# Altium integrated library NXP LPC2000.IntLib: 82 symbols (part 4 of 6)
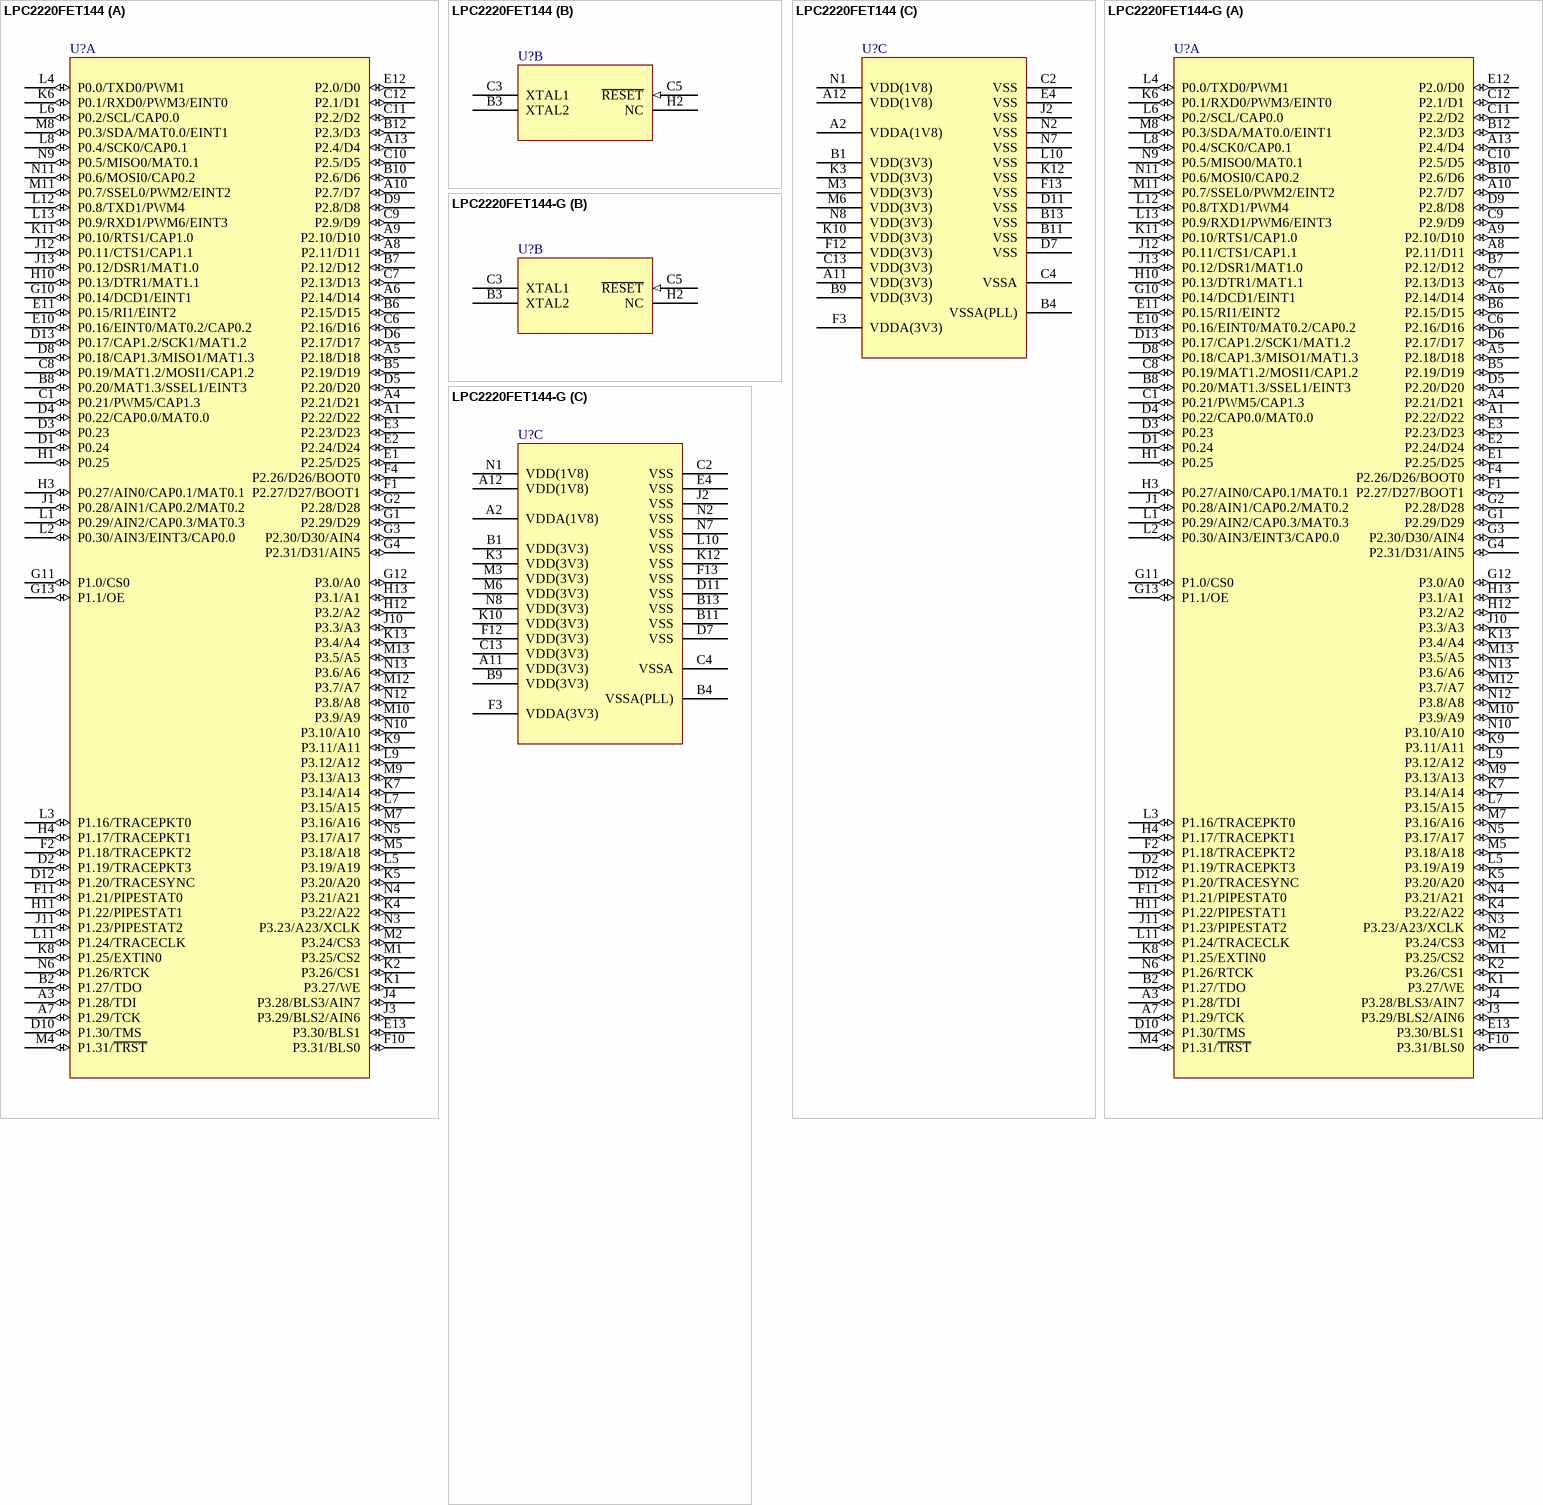
[diagram p32: symbols LPC2220FET144 to LPC2220FET144-G]

## LPC2220FET144
designator U?
ARM7 16/32-Bit Microcontroller, 64KB RAM, 144-Lead TFBGA; Published: 16-Oct-2006; DatasheetVersion: rev.03, Feb-2007; PackageVersion: Sep-2005; PackageReference: SOT569-1; Publisher: Altium Limited; PackageDescription: 144-Ball Plastic Thin Fine Pitch Ball Grid Array 0.8 mm Pitch; Code_JEDEC: MO-216; ComponentLink1Description: Manufacturer Link; ComponentLink1URL: http://www.nxp.com/; ComponentLink2Description: Datasheet; ComponentLink2URL: http://www.standardics.nxp.com/products/lpc2000/datasheet/lpc2210.lpc2220.pdf
footprint SOT569-1 (BGA, 144-Leads, Body 12x12mm, Pitch 0.8mm)
3D model LPC2220-BGA144 (144-Ball Plastic Thin Fine Pitch Ball Grid Array 0.8 mm Pitch)
part A pins: A1 P2.22/D22 (io), A3 P1.28/TDI (io), A4 P2.21/D21 (io), A5 P2.18/D18 (io), A6 P2.14/D14 (io), A7 P1.29/TCK (io), A8 P2.11/D11 (io), A9 P2.10/D10 (io), A10 P2.7/D7 (io), A13 P2.4/D4 (io), B2 P1.27/TDO (io), B5 P2.19/D19 (io), B6 P2.15/D15 (io), B7 P2.12/D12 (io), B8 P0.20/MAT1.3/SSEL1/EINT3 (io), B10 P2.6/D6 (io), B12 P2.3/D3 (io), C1 P0.21/PWM5/CAP1.3 (io), C6 P2.16/D16 (io), C7 P2.13/D13 (io), C8 P0.19/MAT1.2/MOSI1/CAP1.2 (io), C9 P2.9/D9 (io), C10 P2.5/D5 (io), C11 P2.2/D2 (io), C12 P2.1/D1 (io), D1 P0.24 (io), D2 P1.19/TRACEPKT3 (io), D3 P0.23 (io), D4 P0.22/CAP0.0/MAT0.0 (io), D5 P2.20/D20 (io), D6 P2.17/D17 (io), D8 P0.18/CAP1.3/MISO1/MAT1.3 (io), D9 P2.8/D8 (io), D10 P1.30/TMS (io), D12 P1.20/TRACESYNC (io), D13 P0.17/CAP1.2/SCK1/MAT1.2 (io), E1 P2.25/D25 (io), E2 P2.24/D24 (io), E3 P2.23/D23 (io), E10 P0.16/EINT0/MAT0.2/CAP0.2 (io), E11 P0.15/RI1/EINT2 (io), E12 P2.0/D0 (io), E13 P3.30/BLS1 (io), F1 P2.27/D27/BOOT1 (io), F2 P1.18/TRACEPKT2 (io), F4 P2.26/D26/BOOT0 (io), F10 P3.31/BLS0 (io), F11 P1.21/PIPESTAT0 (io), G1 P2.29/D29 (io), G2 P2.28/D28 (io), G3 P2.30/D30/AIN4 (io), G4 P2.31/D31/AIN5 (io), G10 P0.14/DCD1/EINT1 (io), G11 P1.0/CS0 (io), G12 P3.0/A0 (io), G13 P1.1/OE (io), H1 P0.25 (io), H3 P0.27/AIN0/CAP0.1/MAT0.1 (io), H4 P1.17/TRACEPKT1 (io), H10 P0.13/DTR1/MAT1.1 (io), H11 P1.22/PIPESTAT1 (io), H12 P3.2/A2 (io), H13 P3.1/A1 (io), J1 P0.28/AIN1/CAP0.2/MAT0.2 (io), J3 P3.29/BLS2/AIN6 (io), J4 P3.28/BLS3/AIN7 (io), J10 P3.3/A3 (io), J11 P1.23/PIPESTAT2 (io), J12 P0.11/CTS1/CAP1.1 (io), J13 P0.12/DSR1/MAT1.0 (io), K1 P3.27/WE (io), K2 P3.26/CS1 (io), K4 P3.22/A22 (io), K5 P3.20/A20 (io), K6 P0.1/RXD0/PWM3/EINT0 (io), K7 P3.14/A14 (io), K8 P1.25/EXTIN0 (io), K9 P3.11/A11 (io), K11 P0.10/RTS1/CAP1.0 (io), K13 P3.4/A4 (io), L1 P0.29/AIN2/CAP0.3/MAT0.3 (io), L2 P0.30/AIN3/EINT3/CAP0.0 (io), L3 P1.16/TRACEPKT0 (io), L4 P0.0/TXD0/PWM1 (io), L5 P3.19/A19 (io), L6 P0.2/SCL/CAP0.0 (io), L7 P3.15/A15 (io), L8 P0.4/SCK0/CAP0.1 (io), L9 P3.12/A12 (io), L11 P1.24/TRACECLK (io), L12 P0.8/TXD1/PWM4 (io), L13 P0.9/RXD1/PWM6/EINT3 (io), M1 P3.25/CS2 (io), M2 P3.24/CS3 (io), M4 P1.31/~{TRST} (io), M5 P3.18/A18 (io), M7 P3.16/A16 (io), M8 P0.3/SDA/MAT0.0/EINT1 (io), M9 P3.13/A13 (io), M10 P3.9/A9 (io), M11 P0.7/SSEL0/PWM2/EINT2 (io), M12 P3.7/A7 (io), M13 P3.5/A5 (io), N3 P3.23/A23/XCLK (io), N4 P3.21/A21 (io), N5 P3.17/A17 (io), N6 P1.26/RTCK (io), N9 P0.5/MISO0/MAT0.1 (io), N10 P3.10/A10 (io), N11 P0.6/MOSI0/CAP0.2 (io), N12 P3.8/A8 (io), N13 P3.6/A6 (io)
part B pins: B3 XTAL2, C3 XTAL1, C5 ~{RESET} (in), H2 NC
part C pins: A2 VDDA(1V8) (power), A11 VDD(3V3) (power), A12 VDD(1V8) (power), B1 VDD(3V3) (power), B4 VSSA(PLL) (power), B9 VDD(3V3) (power), B11 VSS (power), B13 VSS (power), C2 VSS (power), C4 VSSA (power), C13 VDD(3V3) (power), D7 VSS (power), D11 VSS (power), E4 VSS (power), F3 VDDA(3V3) (power), F12 VDD(3V3) (power), F13 VSS (power), J2 VSS (power), K3 VDD(3V3) (power), K10 VDD(3V3) (power), K12 VSS (power), L10 VSS (power), M3 VDD(3V3) (power), M6 VDD(3V3) (power), N1 VDD(1V8) (power), N2 VSS (power), N7 VSS (power), N8 VDD(3V3) (power)

## LPC2220FET144-G
designator U?
ARM7 16/32-Bit Microcontroller, 64KB RAM, 144-Lead TFBGA; Published: 17-Aug-2007; DatasheetVersion: rev.03, Feb-2007; PackageVersion: Sep-2005; PackageReference: SOT569-1; Publisher: Altium Limited; PackageDescription: 144-Ball Plastic Thin Fine Pitch Ball Grid Array 0.8 mm Pitch; Code_JEDEC: MO-216; ComponentLink1Description: Manufacturer Link; ComponentLink1URL: http://www.nxp.com/; ComponentLink2Description: Datasheet; ComponentLink2URL: http://www.standardics.nxp.com/products/lpc2000/datasheet/lpc2210.lpc2220.pdf
footprint SOT569-1 (BGA, 144-Leads, Body 12x12mm, Pitch 0.8mm)
3D model LPC2220-BGA144 (144-Ball Plastic Thin Fine Pitch Ball Grid Array 0.8 mm Pitch)
part A pins: A1 P2.22/D22 (io), A3 P1.28/TDI (io), A4 P2.21/D21 (io), A5 P2.18/D18 (io), A6 P2.14/D14 (io), A7 P1.29/TCK (io), A8 P2.11/D11 (io), A9 P2.10/D10 (io), A10 P2.7/D7 (io), A13 P2.4/D4 (io), B2 P1.27/TDO (io), B5 P2.19/D19 (io), B6 P2.15/D15 (io), B7 P2.12/D12 (io), B8 P0.20/MAT1.3/SSEL1/EINT3 (io), B10 P2.6/D6 (io), B12 P2.3/D3 (io), C1 P0.21/PWM5/CAP1.3 (io), C6 P2.16/D16 (io), C7 P2.13/D13 (io), C8 P0.19/MAT1.2/MOSI1/CAP1.2 (io), C9 P2.9/D9 (io), C10 P2.5/D5 (io), C11 P2.2/D2 (io), C12 P2.1/D1 (io), D1 P0.24 (io), D2 P1.19/TRACEPKT3 (io), D3 P0.23 (io), D4 P0.22/CAP0.0/MAT0.0 (io), D5 P2.20/D20 (io), D6 P2.17/D17 (io), D8 P0.18/CAP1.3/MISO1/MAT1.3 (io), D9 P2.8/D8 (io), D10 P1.30/TMS (io), D12 P1.20/TRACESYNC (io), D13 P0.17/CAP1.2/SCK1/MAT1.2 (io), E1 P2.25/D25 (io), E2 P2.24/D24 (io), E3 P2.23/D23 (io), E10 P0.16/EINT0/MAT0.2/CAP0.2 (io), E11 P0.15/RI1/EINT2 (io), E12 P2.0/D0 (io), E13 P3.30/BLS1 (io), F1 P2.27/D27/BOOT1 (io), F2 P1.18/TRACEPKT2 (io), F4 P2.26/D26/BOOT0 (io), F10 P3.31/BLS0 (io), F11 P1.21/PIPESTAT0 (io), G1 P2.29/D29 (io), G2 P2.28/D28 (io), G3 P2.30/D30/AIN4 (io), G4 P2.31/D31/AIN5 (io), G10 P0.14/DCD1/EINT1 (io), G11 P1.0/CS0 (io), G12 P3.0/A0 (io), G13 P1.1/OE (io), H1 P0.25 (io), H3 P0.27/AIN0/CAP0.1/MAT0.1 (io), H4 P1.17/TRACEPKT1 (io), H10 P0.13/DTR1/MAT1.1 (io), H11 P1.22/PIPESTAT1 (io), H12 P3.2/A2 (io), H13 P3.1/A1 (io), J1 P0.28/AIN1/CAP0.2/MAT0.2 (io), J3 P3.29/BLS2/AIN6 (io), J4 P3.28/BLS3/AIN7 (io), J10 P3.3/A3 (io), J11 P1.23/PIPESTAT2 (io), J12 P0.11/CTS1/CAP1.1 (io), J13 P0.12/DSR1/MAT1.0 (io), K1 P3.27/WE (io), K2 P3.26/CS1 (io), K4 P3.22/A22 (io), K5 P3.20/A20 (io), K6 P0.1/RXD0/PWM3/EINT0 (io), K7 P3.14/A14 (io), K8 P1.25/EXTIN0 (io), K9 P3.11/A11 (io), K11 P0.10/RTS1/CAP1.0 (io), K13 P3.4/A4 (io), L1 P0.29/AIN2/CAP0.3/MAT0.3 (io), L2 P0.30/AIN3/EINT3/CAP0.0 (io), L3 P1.16/TRACEPKT0 (io), L4 P0.0/TXD0/PWM1 (io), L5 P3.19/A19 (io), L6 P0.2/SCL/CAP0.0 (io), L7 P3.15/A15 (io), L8 P0.4/SCK0/CAP0.1 (io), L9 P3.12/A12 (io), L11 P1.24/TRACECLK (io), L12 P0.8/TXD1/PWM4 (io), L13 P0.9/RXD1/PWM6/EINT3 (io), M1 P3.25/CS2 (io), M2 P3.24/CS3 (io), M4 P1.31/~{TRST} (io), M5 P3.18/A18 (io), M7 P3.16/A16 (io), M8 P0.3/SDA/MAT0.0/EINT1 (io), M9 P3.13/A13 (io), M10 P3.9/A9 (io), M11 P0.7/SSEL0/PWM2/EINT2 (io), M12 P3.7/A7 (io), M13 P3.5/A5 (io), N3 P3.23/A23/XCLK (io), N4 P3.21/A21 (io), N5 P3.17/A17 (io), N6 P1.26/RTCK (io), N9 P0.5/MISO0/MAT0.1 (io), N10 P3.10/A10 (io), N11 P0.6/MOSI0/CAP0.2 (io), N12 P3.8/A8 (io), N13 P3.6/A6 (io)
part B pins: B3 XTAL2, C3 XTAL1, C5 ~{RESET} (in), H2 NC
part C pins: A2 VDDA(1V8) (power), A11 VDD(3V3) (power), A12 VDD(1V8) (power), B1 VDD(3V3) (power), B4 VSSA(PLL) (power), B9 VDD(3V3) (power), B11 VSS (power), B13 VSS (power), C2 VSS (power), C4 VSSA (power), C13 VDD(3V3) (power), D7 VSS (power), D11 VSS (power), E4 VSS (power), F3 VDDA(3V3) (power), F12 VDD(3V3) (power), F13 VSS (power), J2 VSS (power), K3 VDD(3V3) (power), K10 VDD(3V3) (power), K12 VSS (power), L10 VSS (power), M3 VDD(3V3) (power), M6 VDD(3V3) (power), N1 VDD(1V8) (power), N2 VSS (power), N7 VSS (power), N8 VDD(3V3) (power)

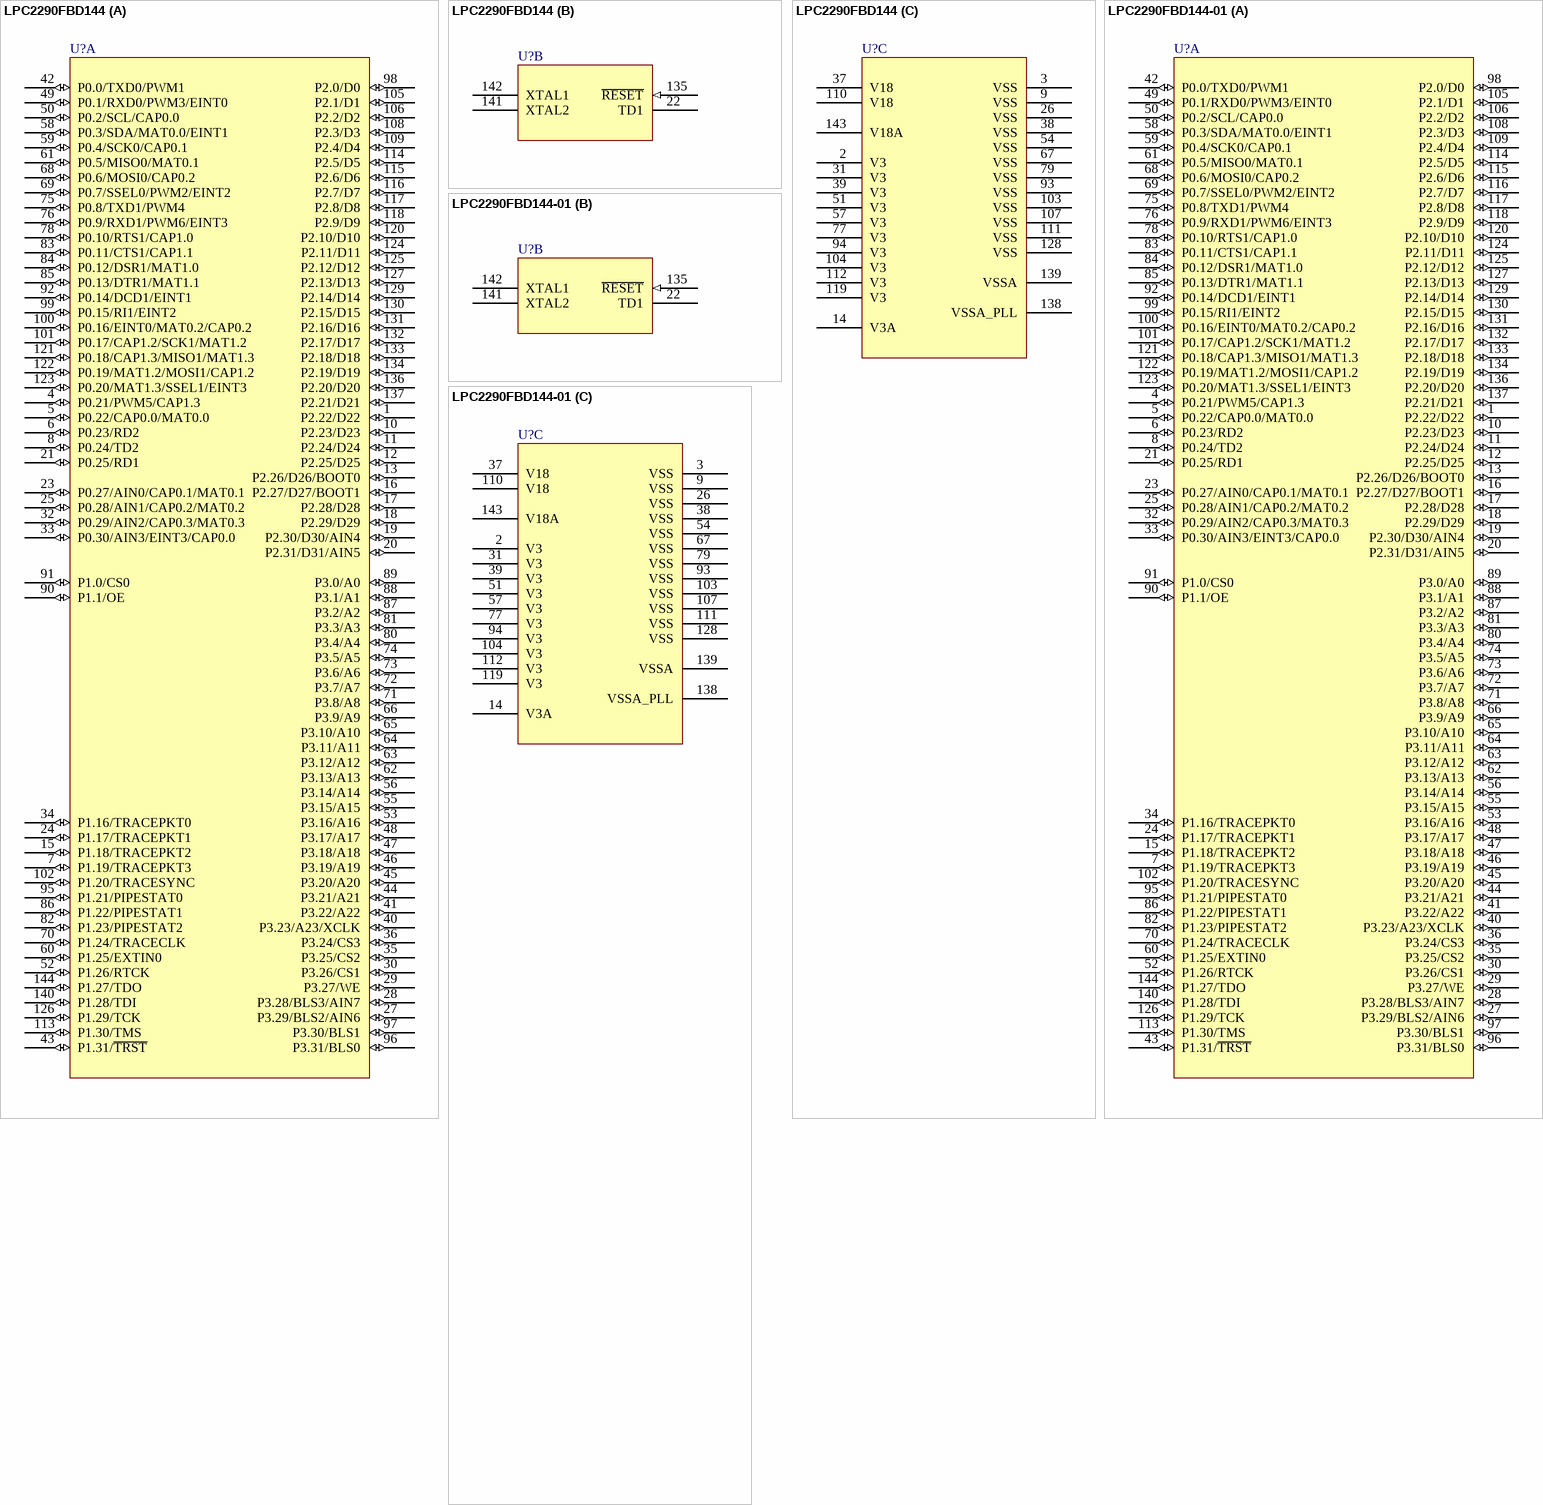
[diagram p16: symbols LPC2290FBD144 to LPC2290FBD144-01]

## LPC2290FBD144
designator U?
ARM7 16/32-Bit Microcontroller, 16KB RAM, 2 Channel CAN, 144-Lead LQFP; Code_IEC: 136E23; Published: 16-Oct-2006; DatasheetVersion: rev.03, Nov-2006; PackageVersion: Feb-2003; PackageReference: SOT486-1; Publisher: Altium Limited; PackageDescription: 144-Pin Plastic Low Profile Quad Flat Pack 0.5 mm Pitch; Code_JEDEC: MS-026; ComponentLink1Description: Manufacturer Link; ComponentLink1URL: http://www.nxp.com/; ComponentLink2Description: Datasheet; ComponentLink2URL: http://www.standardics.nxp.com/products/lpc2000/datasheet/lpc2290.pdf
footprint SOT486-1_N (Thin QFP, 144-Leads, Body 20x20mm, Pitch 0.5mm, IPC Medium Density)
footprint SOT486-1_L (Thin QFP, 144-Leads, Body 20x20mm, Pitch 0.5mm, IPC High Density)
footprint SOT486-1_M (Thin QFP, 144-Leads, Body 20x20mm, Pitch 0.5mm, IPC Low Density)
3D model LPC2290-QFP144 (144-Pin Plastic Low Profile Quad Flat Pack 0.5 mm Pitch)
part A pins: 1 P2.22/D22 (io), 4 P0.21/PWM5/CAP1.3 (io), 5 P0.22/CAP0.0/MAT0.0 (io), 6 P0.23/RD2 (io), 7 P1.19/TRACEPKT3 (io), 8 P0.24/TD2 (io), 10 P2.23/D23 (io), 11 P2.24/D24 (io), 12 P2.25/D25 (io), 13 P2.26/D26/BOOT0 (io), 15 P1.18/TRACEPKT2 (io), 16 P2.27/D27/BOOT1 (io), 17 P2.28/D28 (io), 18 P2.29/D29 (io), 19 P2.30/D30/AIN4 (io), 20 P2.31/D31/AIN5 (io), 21 P0.25/RD1 (io), 23 P0.27/AIN0/CAP0.1/MAT0.1 (io), 24 P1.17/TRACEPKT1 (io), 25 P0.28/AIN1/CAP0.2/MAT0.2 (io), 27 P3.29/BLS2/AIN6 (io), 28 P3.28/BLS3/AIN7 (io), 29 P3.27/WE (io), 30 P3.26/CS1 (io), 32 P0.29/AIN2/CAP0.3/MAT0.3 (io), 33 P0.30/AIN3/EINT3/CAP0.0 (io), 34 P1.16/TRACEPKT0 (io), 35 P3.25/CS2 (io), 36 P3.24/CS3 (io), 40 P3.23/A23/XCLK (io), 41 P3.22/A22 (io), 42 P0.0/TXD0/PWM1 (io), 43 P1.31/~{TRST} (io), 44 P3.21/A21 (io), 45 P3.20/A20 (io), 46 P3.19/A19 (io), 47 P3.18/A18 (io), 48 P3.17/A17 (io), 49 P0.1/RXD0/PWM3/EINT0 (io), 50 P0.2/SCL/CAP0.0 (io), 52 P1.26/RTCK (io), 53 P3.16/A16 (io), 55 P3.15/A15 (io), 56 P3.14/A14 (io), 58 P0.3/SDA/MAT0.0/EINT1 (io), 59 P0.4/SCK0/CAP0.1 (io), 60 P1.25/EXTIN0 (io), 61 P0.5/MISO0/MAT0.1 (io), 62 P3.13/A13 (io), 63 P3.12/A12 (io), 64 P3.11/A11 (io), 65 P3.10/A10 (io), 66 P3.9/A9 (io), 68 P0.6/MOSI0/CAP0.2 (io), 69 P0.7/SSEL0/PWM2/EINT2 (io), 70 P1.24/TRACECLK (io), 71 P3.8/A8 (io), 72 P3.7/A7 (io), 73 P3.6/A6 (io), 74 P3.5/A5 (io), 75 P0.8/TXD1/PWM4 (io), 76 P0.9/RXD1/PWM6/EINT3 (io), 78 P0.10/RTS1/CAP1.0 (io), 80 P3.4/A4 (io), 81 P3.3/A3 (io), 82 P1.23/PIPESTAT2 (io), 83 P0.11/CTS1/CAP1.1 (io), 84 P0.12/DSR1/MAT1.0 (io), 85 P0.13/DTR1/MAT1.1 (io), 86 P1.22/PIPESTAT1 (io), 87 P3.2/A2 (io), 88 P3.1/A1 (io), 89 P3.0/A0 (io), 90 P1.1/OE (io), 91 P1.0/CS0 (io), 92 P0.14/DCD1/EINT1 (io), 95 P1.21/PIPESTAT0 (io), 96 P3.31/BLS0 (io), 97 P3.30/BLS1 (io), 98 P2.0/D0 (io), 99 P0.15/RI1/EINT2 (io), 100 P0.16/EINT0/MAT0.2/CAP0.2 (io), 101 P0.17/CAP1.2/SCK1/MAT1.2 (io), 102 P1.20/TRACESYNC (io), 105 P2.1/D1 (io), 106 P2.2/D2 (io), 108 P2.3/D3 (io), 109 P2.4/D4 (io), 113 P1.30/TMS (io), 114 P2.5/D5 (io), 115 P2.6/D6 (io), 116 P2.7/D7 (io), 117 P2.8/D8 (io), 118 P2.9/D9 (io), 120 P2.10/D10 (io), 121 P0.18/CAP1.3/MISO1/MAT1.3 (io), 122 P0.19/MAT1.2/MOSI1/CAP1.2 (io), 123 P0.20/MAT1.3/SSEL1/EINT3 (io), 124 P2.11/D11 (io), 125 P2.12/D12 (io), 126 P1.29/TCK (io), 127 P2.13/D13 (io), 129 P2.14/D14 (io), 130 P2.15/D15 (io), 131 P2.16/D16 (io), 132 P2.17/D17 (io), 133 P2.18/D18 (io), 134 P2.19/D19 (io), 136 P2.20/D20 (io), 137 P2.21/D21 (io), 140 P1.28/TDI (io), 144 P1.27/TDO (io)
part B pins: 22 TD1, 135 ~{RESET} (in), 141 XTAL2, 142 XTAL1
part C pins: 2 V3 (power), 3 VSS (power), 9 VSS (power), 14 V3A (power), 26 VSS (power), 31 V3 (power), 37 V18 (power), 38 VSS (power), 39 V3 (power), 51 V3 (power), 54 VSS (power), 57 V3 (power), 67 VSS (power), 77 V3 (power), 79 VSS (power), 93 VSS (power), 94 V3 (power), 103 VSS (power), 104 V3 (power), 107 VSS (power), 110 V18 (power), 111 VSS (power), 112 V3 (power), 119 V3 (power), 128 VSS (power), 138 VSSA_PLL (power), 139 VSSA (power), 143 V18A (power)

## LPC2290FBD144-01
designator U?
ARM7 16/32-Bit Microcontroller, 16KB RAM, 2 Channel CAN, Faster CPU, More SRAM, Fast GPIO, SSP, 144-Lead LQFP; Code_IEC: 136E23; Published: 17-Aug-2007; DatasheetVersion: rev.03, Nov-2006; PackageVersion: Feb-2003; PackageReference: SOT486-1; Publisher: Altium Limited; PackageDescription: 144-Pin Plastic Low Profile Quad Flat Pack 0.5 mm Pitch; Code_JEDEC: MS-026; ComponentLink1Description: Manufacturer Link; ComponentLink1URL: http://www.nxp.com/; ComponentLink2Description: Datasheet; ComponentLink2URL: http://www.standardics.nxp.com/products/lpc2000/datasheet/lpc2290.pdf
footprint SOT486-1_N (Thin QFP, 144-Leads, Body 20x20mm, Pitch 0.5mm, IPC Medium Density)
footprint SOT486-1_L (Thin QFP, 144-Leads, Body 20x20mm, Pitch 0.5mm, IPC High Density)
footprint SOT486-1_M (Thin QFP, 144-Leads, Body 20x20mm, Pitch 0.5mm, IPC Low Density)
3D model LPC2290-QFP144 (144-Pin Plastic Low Profile Quad Flat Pack 0.5 mm Pitch)
part A pins: 1 P2.22/D22 (io), 4 P0.21/PWM5/CAP1.3 (io), 5 P0.22/CAP0.0/MAT0.0 (io), 6 P0.23/RD2 (io), 7 P1.19/TRACEPKT3 (io), 8 P0.24/TD2 (io), 10 P2.23/D23 (io), 11 P2.24/D24 (io), 12 P2.25/D25 (io), 13 P2.26/D26/BOOT0 (io), 15 P1.18/TRACEPKT2 (io), 16 P2.27/D27/BOOT1 (io), 17 P2.28/D28 (io), 18 P2.29/D29 (io), 19 P2.30/D30/AIN4 (io), 20 P2.31/D31/AIN5 (io), 21 P0.25/RD1 (io), 23 P0.27/AIN0/CAP0.1/MAT0.1 (io), 24 P1.17/TRACEPKT1 (io), 25 P0.28/AIN1/CAP0.2/MAT0.2 (io), 27 P3.29/BLS2/AIN6 (io), 28 P3.28/BLS3/AIN7 (io), 29 P3.27/WE (io), 30 P3.26/CS1 (io), 32 P0.29/AIN2/CAP0.3/MAT0.3 (io), 33 P0.30/AIN3/EINT3/CAP0.0 (io), 34 P1.16/TRACEPKT0 (io), 35 P3.25/CS2 (io), 36 P3.24/CS3 (io), 40 P3.23/A23/XCLK (io), 41 P3.22/A22 (io), 42 P0.0/TXD0/PWM1 (io), 43 P1.31/~{TRST} (io), 44 P3.21/A21 (io), 45 P3.20/A20 (io), 46 P3.19/A19 (io), 47 P3.18/A18 (io), 48 P3.17/A17 (io), 49 P0.1/RXD0/PWM3/EINT0 (io), 50 P0.2/SCL/CAP0.0 (io), 52 P1.26/RTCK (io), 53 P3.16/A16 (io), 55 P3.15/A15 (io), 56 P3.14/A14 (io), 58 P0.3/SDA/MAT0.0/EINT1 (io), 59 P0.4/SCK0/CAP0.1 (io), 60 P1.25/EXTIN0 (io), 61 P0.5/MISO0/MAT0.1 (io), 62 P3.13/A13 (io), 63 P3.12/A12 (io), 64 P3.11/A11 (io), 65 P3.10/A10 (io), 66 P3.9/A9 (io), 68 P0.6/MOSI0/CAP0.2 (io), 69 P0.7/SSEL0/PWM2/EINT2 (io), 70 P1.24/TRACECLK (io), 71 P3.8/A8 (io), 72 P3.7/A7 (io), 73 P3.6/A6 (io), 74 P3.5/A5 (io), 75 P0.8/TXD1/PWM4 (io), 76 P0.9/RXD1/PWM6/EINT3 (io), 78 P0.10/RTS1/CAP1.0 (io), 80 P3.4/A4 (io), 81 P3.3/A3 (io), 82 P1.23/PIPESTAT2 (io), 83 P0.11/CTS1/CAP1.1 (io), 84 P0.12/DSR1/MAT1.0 (io), 85 P0.13/DTR1/MAT1.1 (io), 86 P1.22/PIPESTAT1 (io), 87 P3.2/A2 (io), 88 P3.1/A1 (io), 89 P3.0/A0 (io), 90 P1.1/OE (io), 91 P1.0/CS0 (io), 92 P0.14/DCD1/EINT1 (io), 95 P1.21/PIPESTAT0 (io), 96 P3.31/BLS0 (io), 97 P3.30/BLS1 (io), 98 P2.0/D0 (io), 99 P0.15/RI1/EINT2 (io), 100 P0.16/EINT0/MAT0.2/CAP0.2 (io), 101 P0.17/CAP1.2/SCK1/MAT1.2 (io), 102 P1.20/TRACESYNC (io), 105 P2.1/D1 (io), 106 P2.2/D2 (io), 108 P2.3/D3 (io), 109 P2.4/D4 (io), 113 P1.30/TMS (io), 114 P2.5/D5 (io), 115 P2.6/D6 (io), 116 P2.7/D7 (io), 117 P2.8/D8 (io), 118 P2.9/D9 (io), 120 P2.10/D10 (io), 121 P0.18/CAP1.3/MISO1/MAT1.3 (io), 122 P0.19/MAT1.2/MOSI1/CAP1.2 (io), 123 P0.20/MAT1.3/SSEL1/EINT3 (io), 124 P2.11/D11 (io), 125 P2.12/D12 (io), 126 P1.29/TCK (io), 127 P2.13/D13 (io), 129 P2.14/D14 (io), 130 P2.15/D15 (io), 131 P2.16/D16 (io), 132 P2.17/D17 (io), 133 P2.18/D18 (io), 134 P2.19/D19 (io), 136 P2.20/D20 (io), 137 P2.21/D21 (io), 140 P1.28/TDI (io), 144 P1.27/TDO (io)
part B pins: 22 TD1, 135 ~{RESET} (in), 141 XTAL2, 142 XTAL1
part C pins: 2 V3 (power), 3 VSS (power), 9 VSS (power), 14 V3A (power), 26 VSS (power), 31 V3 (power), 37 V18 (power), 38 VSS (power), 39 V3 (power), 51 V3 (power), 54 VSS (power), 57 V3 (power), 67 VSS (power), 77 V3 (power), 79 VSS (power), 93 VSS (power), 94 V3 (power), 103 VSS (power), 104 V3 (power), 107 VSS (power), 110 V18 (power), 111 VSS (power), 112 V3 (power), 119 V3 (power), 128 VSS (power), 138 VSSA_PLL (power), 139 VSSA (power), 143 V18A (power)

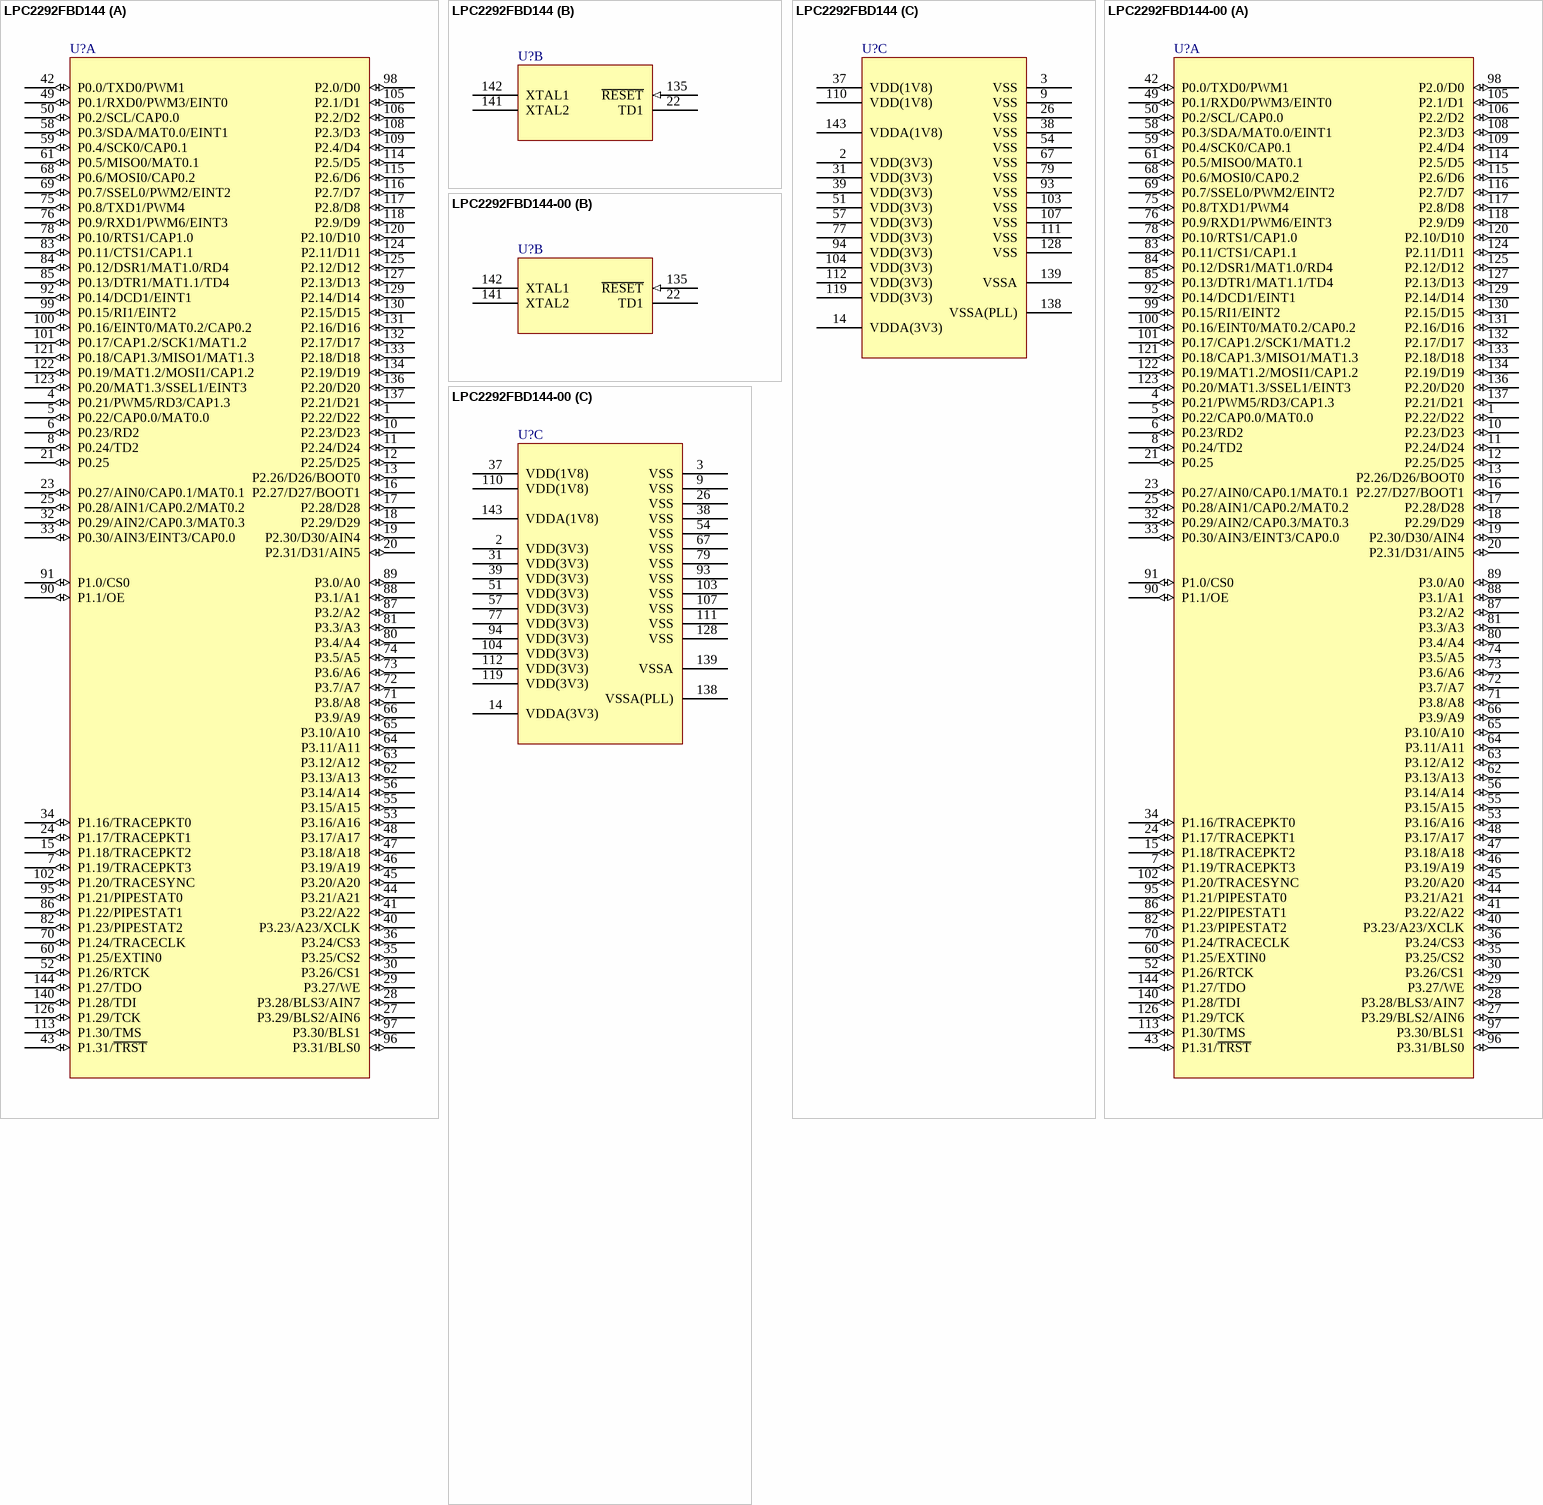
[diagram p17: symbols LPC2292FBD144 to LPC2292FBD144-00]

## LPC2292FBD144
designator U?
ARM7 16/32-Bit Microcontroller, 256KB Flash, 16KB RAM, 2 Channel CAN, 144-Lead LQFP; Code_IEC: 136E23; Published: 16-Oct-2006; DatasheetVersion: rev.06, Jul-2007; PackageVersion: Feb-2003; PackageReference: SOT486-1; Publisher: Altium Limited; PackageDescription: 144-Pin Plastic Low Profile Quad Flat Pack 0.5 mm Pitch; Code_JEDEC: MS-026; ComponentLink1Description: Manufacturer Link; ComponentLink1URL: http://www.nxp.com/; ComponentLink2Description: Datasheet; ComponentLink2URL: http://www.standardics.nxp.com/products/lpc2000/datasheet/lpc2292.lpc2294.pdf
footprint SOT486-1_N (Thin QFP, 144-Leads, Body 20x20mm, Pitch 0.5mm, IPC Medium Density)
footprint SOT486-1_L (Thin QFP, 144-Leads, Body 20x20mm, Pitch 0.5mm, IPC High Density)
footprint SOT486-1_M (Thin QFP, 144-Leads, Body 20x20mm, Pitch 0.5mm, IPC Low Density)
3D model LPC2292-QFP144 (144-Pin Plastic Low Profile Quad Flat Pack 0.5 mm Pitch)
part A pins: 1 P2.22/D22 (io), 4 P0.21/PWM5/RD3/CAP1.3 (io), 5 P0.22/CAP0.0/MAT0.0 (io), 6 P0.23/RD2 (io), 7 P1.19/TRACEPKT3 (io), 8 P0.24/TD2 (io), 10 P2.23/D23 (io), 11 P2.24/D24 (io), 12 P2.25/D25 (io), 13 P2.26/D26/BOOT0 (io), 15 P1.18/TRACEPKT2 (io), 16 P2.27/D27/BOOT1 (io), 17 P2.28/D28 (io), 18 P2.29/D29 (io), 19 P2.30/D30/AIN4 (io), 20 P2.31/D31/AIN5 (io), 21 P0.25 (io), 23 P0.27/AIN0/CAP0.1/MAT0.1 (io), 24 P1.17/TRACEPKT1 (io), 25 P0.28/AIN1/CAP0.2/MAT0.2 (io), 27 P3.29/BLS2/AIN6 (io), 28 P3.28/BLS3/AIN7 (io), 29 P3.27/WE (io), 30 P3.26/CS1 (io), 32 P0.29/AIN2/CAP0.3/MAT0.3 (io), 33 P0.30/AIN3/EINT3/CAP0.0 (io), 34 P1.16/TRACEPKT0 (io), 35 P3.25/CS2 (io), 36 P3.24/CS3 (io), 40 P3.23/A23/XCLK (io), 41 P3.22/A22 (io), 42 P0.0/TXD0/PWM1 (io), 43 P1.31/~{TRST} (io), 44 P3.21/A21 (io), 45 P3.20/A20 (io), 46 P3.19/A19 (io), 47 P3.18/A18 (io), 48 P3.17/A17 (io), 49 P0.1/RXD0/PWM3/EINT0 (io), 50 P0.2/SCL/CAP0.0 (io), 52 P1.26/RTCK (io), 53 P3.16/A16 (io), 55 P3.15/A15 (io), 56 P3.14/A14 (io), 58 P0.3/SDA/MAT0.0/EINT1 (io), 59 P0.4/SCK0/CAP0.1 (io), 60 P1.25/EXTIN0 (io), 61 P0.5/MISO0/MAT0.1 (io), 62 P3.13/A13 (io), 63 P3.12/A12 (io), 64 P3.11/A11 (io), 65 P3.10/A10 (io), 66 P3.9/A9 (io), 68 P0.6/MOSI0/CAP0.2 (io), 69 P0.7/SSEL0/PWM2/EINT2 (io), 70 P1.24/TRACECLK (io), 71 P3.8/A8 (io), 72 P3.7/A7 (io), 73 P3.6/A6 (io), 74 P3.5/A5 (io), 75 P0.8/TXD1/PWM4 (io), 76 P0.9/RXD1/PWM6/EINT3 (io), 78 P0.10/RTS1/CAP1.0 (io), 80 P3.4/A4 (io), 81 P3.3/A3 (io), 82 P1.23/PIPESTAT2 (io), 83 P0.11/CTS1/CAP1.1 (io), 84 P0.12/DSR1/MAT1.0/RD4 (io), 85 P0.13/DTR1/MAT1.1/TD4 (io), 86 P1.22/PIPESTAT1 (io), 87 P3.2/A2 (io), 88 P3.1/A1 (io), 89 P3.0/A0 (io), 90 P1.1/OE (io), 91 P1.0/CS0 (io), 92 P0.14/DCD1/EINT1 (io), 95 P1.21/PIPESTAT0 (io), 96 P3.31/BLS0 (io), 97 P3.30/BLS1 (io), 98 P2.0/D0 (io), 99 P0.15/RI1/EINT2 (io), 100 P0.16/EINT0/MAT0.2/CAP0.2 (io), 101 P0.17/CAP1.2/SCK1/MAT1.2 (io), 102 P1.20/TRACESYNC (io), 105 P2.1/D1 (io), 106 P2.2/D2 (io), 108 P2.3/D3 (io), 109 P2.4/D4 (io), 113 P1.30/TMS (io), 114 P2.5/D5 (io), 115 P2.6/D6 (io), 116 P2.7/D7 (io), 117 P2.8/D8 (io), 118 P2.9/D9 (io), 120 P2.10/D10 (io), 121 P0.18/CAP1.3/MISO1/MAT1.3 (io), 122 P0.19/MAT1.2/MOSI1/CAP1.2 (io), 123 P0.20/MAT1.3/SSEL1/EINT3 (io), 124 P2.11/D11 (io), 125 P2.12/D12 (io), 126 P1.29/TCK (io), 127 P2.13/D13 (io), 129 P2.14/D14 (io), 130 P2.15/D15 (io), 131 P2.16/D16 (io), 132 P2.17/D17 (io), 133 P2.18/D18 (io), 134 P2.19/D19 (io), 136 P2.20/D20 (io), 137 P2.21/D21 (io), 140 P1.28/TDI (io), 144 P1.27/TDO (io)
part B pins: 22 TD1, 135 ~{RESET} (in), 141 XTAL2, 142 XTAL1
part C pins: 2 VDD(3V3) (power), 3 VSS (power), 9 VSS (power), 14 VDDA(3V3) (power), 26 VSS (power), 31 VDD(3V3) (power), 37 VDD(1V8) (power), 38 VSS (power), 39 VDD(3V3) (power), 51 VDD(3V3) (power), 54 VSS (power), 57 VDD(3V3) (power), 67 VSS (power), 77 VDD(3V3) (power), 79 VSS (power), 93 VSS (power), 94 VDD(3V3) (power), 103 VSS (power), 104 VDD(3V3) (power), 107 VSS (power), 110 VDD(1V8) (power), 111 VSS (power), 112 VDD(3V3) (power), 119 VDD(3V3) (power), 128 VSS (power), 138 VSSA(PLL) (power), 139 VSSA (power), 143 VDDA(1V8) (power)

## LPC2292FBD144-00
designator U?
ARM7 16/32-Bit Microcontroller, 256KB Flash, 16KB RAM, 2 Channel CAN, 144-Lead LQFP; Code_IEC: 136E23; Published: 16-Oct-2006; DatasheetVersion: rev.06, Jul-2007; PackageVersion: Feb-2003; PackageReference: SOT486-1; Publisher: Altium Limited; PackageDescription: 144-Pin Plastic Low Profile Quad Flat Pack 0.5 mm Pitch; Code_JEDEC: MS-026; ComponentLink1Description: Manufacturer Link; ComponentLink1URL: http://www.nxp.com/; ComponentLink2Description: Datasheet; ComponentLink2URL: http://www.standardics.nxp.com/products/lpc2000/datasheet/lpc2292.lpc2294.pdf
footprint SOT486-1_N (Thin QFP, 144-Leads, Body 20x20mm, Pitch 0.5mm, IPC Medium Density)
footprint SOT486-1_L (Thin QFP, 144-Leads, Body 20x20mm, Pitch 0.5mm, IPC High Density)
footprint SOT486-1_M (Thin QFP, 144-Leads, Body 20x20mm, Pitch 0.5mm, IPC Low Density)
3D model LPC2292-QFP144 (144-Pin Plastic Low Profile Quad Flat Pack 0.5 mm Pitch)
part A pins: 1 P2.22/D22 (io), 4 P0.21/PWM5/RD3/CAP1.3 (io), 5 P0.22/CAP0.0/MAT0.0 (io), 6 P0.23/RD2 (io), 7 P1.19/TRACEPKT3 (io), 8 P0.24/TD2 (io), 10 P2.23/D23 (io), 11 P2.24/D24 (io), 12 P2.25/D25 (io), 13 P2.26/D26/BOOT0 (io), 15 P1.18/TRACEPKT2 (io), 16 P2.27/D27/BOOT1 (io), 17 P2.28/D28 (io), 18 P2.29/D29 (io), 19 P2.30/D30/AIN4 (io), 20 P2.31/D31/AIN5 (io), 21 P0.25 (io), 23 P0.27/AIN0/CAP0.1/MAT0.1 (io), 24 P1.17/TRACEPKT1 (io), 25 P0.28/AIN1/CAP0.2/MAT0.2 (io), 27 P3.29/BLS2/AIN6 (io), 28 P3.28/BLS3/AIN7 (io), 29 P3.27/WE (io), 30 P3.26/CS1 (io), 32 P0.29/AIN2/CAP0.3/MAT0.3 (io), 33 P0.30/AIN3/EINT3/CAP0.0 (io), 34 P1.16/TRACEPKT0 (io), 35 P3.25/CS2 (io), 36 P3.24/CS3 (io), 40 P3.23/A23/XCLK (io), 41 P3.22/A22 (io), 42 P0.0/TXD0/PWM1 (io), 43 P1.31/~{TRST} (io), 44 P3.21/A21 (io), 45 P3.20/A20 (io), 46 P3.19/A19 (io), 47 P3.18/A18 (io), 48 P3.17/A17 (io), 49 P0.1/RXD0/PWM3/EINT0 (io), 50 P0.2/SCL/CAP0.0 (io), 52 P1.26/RTCK (io), 53 P3.16/A16 (io), 55 P3.15/A15 (io), 56 P3.14/A14 (io), 58 P0.3/SDA/MAT0.0/EINT1 (io), 59 P0.4/SCK0/CAP0.1 (io), 60 P1.25/EXTIN0 (io), 61 P0.5/MISO0/MAT0.1 (io), 62 P3.13/A13 (io), 63 P3.12/A12 (io), 64 P3.11/A11 (io), 65 P3.10/A10 (io), 66 P3.9/A9 (io), 68 P0.6/MOSI0/CAP0.2 (io), 69 P0.7/SSEL0/PWM2/EINT2 (io), 70 P1.24/TRACECLK (io), 71 P3.8/A8 (io), 72 P3.7/A7 (io), 73 P3.6/A6 (io), 74 P3.5/A5 (io), 75 P0.8/TXD1/PWM4 (io), 76 P0.9/RXD1/PWM6/EINT3 (io), 78 P0.10/RTS1/CAP1.0 (io), 80 P3.4/A4 (io), 81 P3.3/A3 (io), 82 P1.23/PIPESTAT2 (io), 83 P0.11/CTS1/CAP1.1 (io), 84 P0.12/DSR1/MAT1.0/RD4 (io), 85 P0.13/DTR1/MAT1.1/TD4 (io), 86 P1.22/PIPESTAT1 (io), 87 P3.2/A2 (io), 88 P3.1/A1 (io), 89 P3.0/A0 (io), 90 P1.1/OE (io), 91 P1.0/CS0 (io), 92 P0.14/DCD1/EINT1 (io), 95 P1.21/PIPESTAT0 (io), 96 P3.31/BLS0 (io), 97 P3.30/BLS1 (io), 98 P2.0/D0 (io), 99 P0.15/RI1/EINT2 (io), 100 P0.16/EINT0/MAT0.2/CAP0.2 (io), 101 P0.17/CAP1.2/SCK1/MAT1.2 (io), 102 P1.20/TRACESYNC (io), 105 P2.1/D1 (io), 106 P2.2/D2 (io), 108 P2.3/D3 (io), 109 P2.4/D4 (io), 113 P1.30/TMS (io), 114 P2.5/D5 (io), 115 P2.6/D6 (io), 116 P2.7/D7 (io), 117 P2.8/D8 (io), 118 P2.9/D9 (io), 120 P2.10/D10 (io), 121 P0.18/CAP1.3/MISO1/MAT1.3 (io), 122 P0.19/MAT1.2/MOSI1/CAP1.2 (io), 123 P0.20/MAT1.3/SSEL1/EINT3 (io), 124 P2.11/D11 (io), 125 P2.12/D12 (io), 126 P1.29/TCK (io), 127 P2.13/D13 (io), 129 P2.14/D14 (io), 130 P2.15/D15 (io), 131 P2.16/D16 (io), 132 P2.17/D17 (io), 133 P2.18/D18 (io), 134 P2.19/D19 (io), 136 P2.20/D20 (io), 137 P2.21/D21 (io), 140 P1.28/TDI (io), 144 P1.27/TDO (io)
part B pins: 22 TD1, 135 ~{RESET} (in), 141 XTAL2, 142 XTAL1
part C pins: 2 VDD(3V3) (power), 3 VSS (power), 9 VSS (power), 14 VDDA(3V3) (power), 26 VSS (power), 31 VDD(3V3) (power), 37 VDD(1V8) (power), 38 VSS (power), 39 VDD(3V3) (power), 51 VDD(3V3) (power), 54 VSS (power), 57 VDD(3V3) (power), 67 VSS (power), 77 VDD(3V3) (power), 79 VSS (power), 93 VSS (power), 94 VDD(3V3) (power), 103 VSS (power), 104 VDD(3V3) (power), 107 VSS (power), 110 VDD(1V8) (power), 111 VSS (power), 112 VDD(3V3) (power), 119 VDD(3V3) (power), 128 VSS (power), 138 VSSA(PLL) (power), 139 VSSA (power), 143 VDDA(1V8) (power)

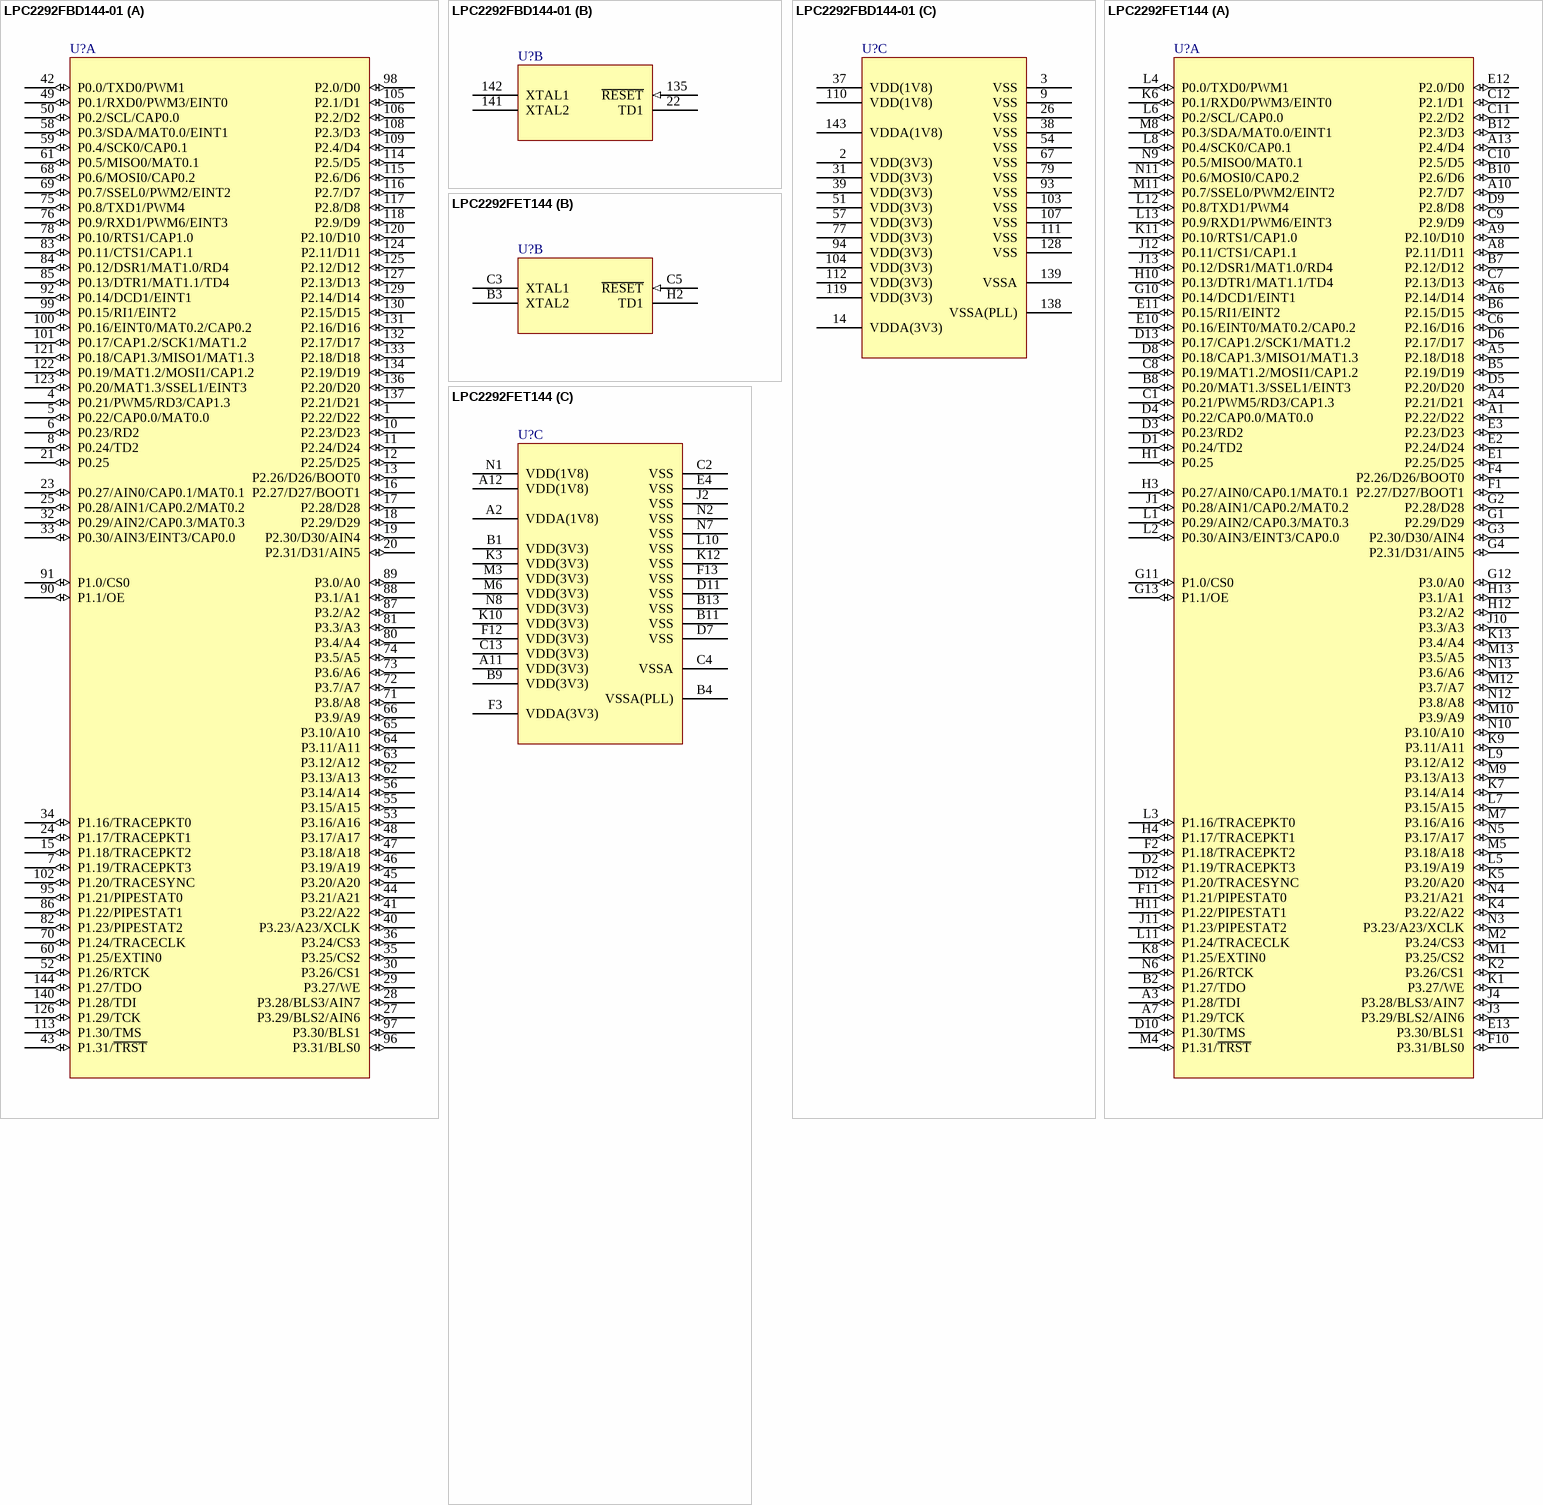
[diagram p18: symbols LPC2292FBD144-01 to LPC2292FET144]

## LPC2292FBD144-01
designator U?
ARM7 16/32-Bit Microcontroller, 256KB Flash, 16KB RAM, 2 Channel CAN, Fast GPIO/SSP/Enhanced UART, ADC, Timer, 144-Lead LQFP; Code_IEC: 136E23; Published: 17-Aug-2007; DatasheetVersion: rev.06, Jul-2007; PackageVersion: Feb-2003; PackageReference: SOT486-1; Publisher: Altium Limited; PackageDescription: 144-Pin Plastic Low Profile Quad Flat Pack 0.5 mm Pitch; Code_JEDEC: MS-026; ComponentLink1Description: Manufacturer Link; ComponentLink1URL: http://www.nxp.com/; ComponentLink2Description: Datasheet; ComponentLink2URL: http://www.standardics.nxp.com/products/lpc2000/datasheet/lpc2292.lpc2294.pdf
footprint SOT486-1_N (Thin QFP, 144-Leads, Body 20x20mm, Pitch 0.5mm, IPC Medium Density)
footprint SOT486-1_L (Thin QFP, 144-Leads, Body 20x20mm, Pitch 0.5mm, IPC High Density)
footprint SOT486-1_M (Thin QFP, 144-Leads, Body 20x20mm, Pitch 0.5mm, IPC Low Density)
3D model LPC2292-QFP144 (144-Pin Plastic Low Profile Quad Flat Pack 0.5 mm Pitch)
part A pins: 1 P2.22/D22 (io), 4 P0.21/PWM5/RD3/CAP1.3 (io), 5 P0.22/CAP0.0/MAT0.0 (io), 6 P0.23/RD2 (io), 7 P1.19/TRACEPKT3 (io), 8 P0.24/TD2 (io), 10 P2.23/D23 (io), 11 P2.24/D24 (io), 12 P2.25/D25 (io), 13 P2.26/D26/BOOT0 (io), 15 P1.18/TRACEPKT2 (io), 16 P2.27/D27/BOOT1 (io), 17 P2.28/D28 (io), 18 P2.29/D29 (io), 19 P2.30/D30/AIN4 (io), 20 P2.31/D31/AIN5 (io), 21 P0.25 (io), 23 P0.27/AIN0/CAP0.1/MAT0.1 (io), 24 P1.17/TRACEPKT1 (io), 25 P0.28/AIN1/CAP0.2/MAT0.2 (io), 27 P3.29/BLS2/AIN6 (io), 28 P3.28/BLS3/AIN7 (io), 29 P3.27/WE (io), 30 P3.26/CS1 (io), 32 P0.29/AIN2/CAP0.3/MAT0.3 (io), 33 P0.30/AIN3/EINT3/CAP0.0 (io), 34 P1.16/TRACEPKT0 (io), 35 P3.25/CS2 (io), 36 P3.24/CS3 (io), 40 P3.23/A23/XCLK (io), 41 P3.22/A22 (io), 42 P0.0/TXD0/PWM1 (io), 43 P1.31/~{TRST} (io), 44 P3.21/A21 (io), 45 P3.20/A20 (io), 46 P3.19/A19 (io), 47 P3.18/A18 (io), 48 P3.17/A17 (io), 49 P0.1/RXD0/PWM3/EINT0 (io), 50 P0.2/SCL/CAP0.0 (io), 52 P1.26/RTCK (io), 53 P3.16/A16 (io), 55 P3.15/A15 (io), 56 P3.14/A14 (io), 58 P0.3/SDA/MAT0.0/EINT1 (io), 59 P0.4/SCK0/CAP0.1 (io), 60 P1.25/EXTIN0 (io), 61 P0.5/MISO0/MAT0.1 (io), 62 P3.13/A13 (io), 63 P3.12/A12 (io), 64 P3.11/A11 (io), 65 P3.10/A10 (io), 66 P3.9/A9 (io), 68 P0.6/MOSI0/CAP0.2 (io), 69 P0.7/SSEL0/PWM2/EINT2 (io), 70 P1.24/TRACECLK (io), 71 P3.8/A8 (io), 72 P3.7/A7 (io), 73 P3.6/A6 (io), 74 P3.5/A5 (io), 75 P0.8/TXD1/PWM4 (io), 76 P0.9/RXD1/PWM6/EINT3 (io), 78 P0.10/RTS1/CAP1.0 (io), 80 P3.4/A4 (io), 81 P3.3/A3 (io), 82 P1.23/PIPESTAT2 (io), 83 P0.11/CTS1/CAP1.1 (io), 84 P0.12/DSR1/MAT1.0/RD4 (io), 85 P0.13/DTR1/MAT1.1/TD4 (io), 86 P1.22/PIPESTAT1 (io), 87 P3.2/A2 (io), 88 P3.1/A1 (io), 89 P3.0/A0 (io), 90 P1.1/OE (io), 91 P1.0/CS0 (io), 92 P0.14/DCD1/EINT1 (io), 95 P1.21/PIPESTAT0 (io), 96 P3.31/BLS0 (io), 97 P3.30/BLS1 (io), 98 P2.0/D0 (io), 99 P0.15/RI1/EINT2 (io), 100 P0.16/EINT0/MAT0.2/CAP0.2 (io), 101 P0.17/CAP1.2/SCK1/MAT1.2 (io), 102 P1.20/TRACESYNC (io), 105 P2.1/D1 (io), 106 P2.2/D2 (io), 108 P2.3/D3 (io), 109 P2.4/D4 (io), 113 P1.30/TMS (io), 114 P2.5/D5 (io), 115 P2.6/D6 (io), 116 P2.7/D7 (io), 117 P2.8/D8 (io), 118 P2.9/D9 (io), 120 P2.10/D10 (io), 121 P0.18/CAP1.3/MISO1/MAT1.3 (io), 122 P0.19/MAT1.2/MOSI1/CAP1.2 (io), 123 P0.20/MAT1.3/SSEL1/EINT3 (io), 124 P2.11/D11 (io), 125 P2.12/D12 (io), 126 P1.29/TCK (io), 127 P2.13/D13 (io), 129 P2.14/D14 (io), 130 P2.15/D15 (io), 131 P2.16/D16 (io), 132 P2.17/D17 (io), 133 P2.18/D18 (io), 134 P2.19/D19 (io), 136 P2.20/D20 (io), 137 P2.21/D21 (io), 140 P1.28/TDI (io), 144 P1.27/TDO (io)
part B pins: 22 TD1, 135 ~{RESET} (in), 141 XTAL2, 142 XTAL1
part C pins: 2 VDD(3V3) (power), 3 VSS (power), 9 VSS (power), 14 VDDA(3V3) (power), 26 VSS (power), 31 VDD(3V3) (power), 37 VDD(1V8) (power), 38 VSS (power), 39 VDD(3V3) (power), 51 VDD(3V3) (power), 54 VSS (power), 57 VDD(3V3) (power), 67 VSS (power), 77 VDD(3V3) (power), 79 VSS (power), 93 VSS (power), 94 VDD(3V3) (power), 103 VSS (power), 104 VDD(3V3) (power), 107 VSS (power), 110 VDD(1V8) (power), 111 VSS (power), 112 VDD(3V3) (power), 119 VDD(3V3) (power), 128 VSS (power), 138 VSSA(PLL) (power), 139 VSSA (power), 143 VDDA(1V8) (power)

## LPC2292FET144
designator U?
ARM7 16/32-Bit Microcontroller, 256KB Flash, 16KB RAM, 2 Channel CAN, 144-Lead TFBGA; Published: 16-Oct-2006; DatasheetVersion: rev.06, Jul-2007; PackageVersion: Sep-2005; PackageReference: SOT569-1; Publisher: Altium Limited; PackageDescription: 144-Ball Plastic Thin Fine Pitch Ball Grid Array 0.8 mm Pitch; Code_JEDEC: MO-216; ComponentLink1Description: Manufacturer Link; ComponentLink1URL: http://www.nxp.com/; ComponentLink2Description: Datasheet; ComponentLink2URL: http://www.standardics.nxp.com/products/lpc2000/datasheet/lpc2292.lpc2294.pdf
footprint SOT569-1 (BGA, 144-Leads, Body 12x12mm, Pitch 0.8mm)
3D model LPC2292-BGA144 (144-Ball Plastic Thin Fine Pitch Ball Grid Array 0.8 mm Pitch)
part A pins: A1 P2.22/D22 (io), A3 P1.28/TDI (io), A4 P2.21/D21 (io), A5 P2.18/D18 (io), A6 P2.14/D14 (io), A7 P1.29/TCK (io), A8 P2.11/D11 (io), A9 P2.10/D10 (io), A10 P2.7/D7 (io), A13 P2.4/D4 (io), B2 P1.27/TDO (io), B5 P2.19/D19 (io), B6 P2.15/D15 (io), B7 P2.12/D12 (io), B8 P0.20/MAT1.3/SSEL1/EINT3 (io), B10 P2.6/D6 (io), B12 P2.3/D3 (io), C1 P0.21/PWM5/RD3/CAP1.3 (io), C6 P2.16/D16 (io), C7 P2.13/D13 (io), C8 P0.19/MAT1.2/MOSI1/CAP1.2 (io), C9 P2.9/D9 (io), C10 P2.5/D5 (io), C11 P2.2/D2 (io), C12 P2.1/D1 (io), D1 P0.24/TD2 (io), D2 P1.19/TRACEPKT3 (io), D3 P0.23/RD2 (io), D4 P0.22/CAP0.0/MAT0.0 (io), D5 P2.20/D20 (io), D6 P2.17/D17 (io), D8 P0.18/CAP1.3/MISO1/MAT1.3 (io), D9 P2.8/D8 (io), D10 P1.30/TMS (io), D12 P1.20/TRACESYNC (io), D13 P0.17/CAP1.2/SCK1/MAT1.2 (io), E1 P2.25/D25 (io), E2 P2.24/D24 (io), E3 P2.23/D23 (io), E10 P0.16/EINT0/MAT0.2/CAP0.2 (io), E11 P0.15/RI1/EINT2 (io), E12 P2.0/D0 (io), E13 P3.30/BLS1 (io), F1 P2.27/D27/BOOT1 (io), F2 P1.18/TRACEPKT2 (io), F4 P2.26/D26/BOOT0 (io), F10 P3.31/BLS0 (io), F11 P1.21/PIPESTAT0 (io), G1 P2.29/D29 (io), G2 P2.28/D28 (io), G3 P2.30/D30/AIN4 (io), G4 P2.31/D31/AIN5 (io), G10 P0.14/DCD1/EINT1 (io), G11 P1.0/CS0 (io), G12 P3.0/A0 (io), G13 P1.1/OE (io), H1 P0.25 (io), H3 P0.27/AIN0/CAP0.1/MAT0.1 (io), H4 P1.17/TRACEPKT1 (io), H10 P0.13/DTR1/MAT1.1/TD4 (io), H11 P1.22/PIPESTAT1 (io), H12 P3.2/A2 (io), H13 P3.1/A1 (io), J1 P0.28/AIN1/CAP0.2/MAT0.2 (io), J3 P3.29/BLS2/AIN6 (io), J4 P3.28/BLS3/AIN7 (io), J10 P3.3/A3 (io), J11 P1.23/PIPESTAT2 (io), J12 P0.11/CTS1/CAP1.1 (io), J13 P0.12/DSR1/MAT1.0/RD4 (io), K1 P3.27/WE (io), K2 P3.26/CS1 (io), K4 P3.22/A22 (io), K5 P3.20/A20 (io), K6 P0.1/RXD0/PWM3/EINT0 (io), K7 P3.14/A14 (io), K8 P1.25/EXTIN0 (io), K9 P3.11/A11 (io), K11 P0.10/RTS1/CAP1.0 (io), K13 P3.4/A4 (io), L1 P0.29/AIN2/CAP0.3/MAT0.3 (io), L2 P0.30/AIN3/EINT3/CAP0.0 (io), L3 P1.16/TRACEPKT0 (io), L4 P0.0/TXD0/PWM1 (io), L5 P3.19/A19 (io), L6 P0.2/SCL/CAP0.0 (io), L7 P3.15/A15 (io), L8 P0.4/SCK0/CAP0.1 (io), L9 P3.12/A12 (io), L11 P1.24/TRACECLK (io), L12 P0.8/TXD1/PWM4 (io), L13 P0.9/RXD1/PWM6/EINT3 (io), M1 P3.25/CS2 (io), M2 P3.24/CS3 (io), M4 P1.31/~{TRST} (io), M5 P3.18/A18 (io), M7 P3.16/A16 (io), M8 P0.3/SDA/MAT0.0/EINT1 (io), M9 P3.13/A13 (io), M10 P3.9/A9 (io), M11 P0.7/SSEL0/PWM2/EINT2 (io), M12 P3.7/A7 (io), M13 P3.5/A5 (io), N3 P3.23/A23/XCLK (io), N4 P3.21/A21 (io), N5 P3.17/A17 (io), N6 P1.26/RTCK (io), N9 P0.5/MISO0/MAT0.1 (io), N10 P3.10/A10 (io), N11 P0.6/MOSI0/CAP0.2 (io), N12 P3.8/A8 (io), N13 P3.6/A6 (io)
part B pins: B3 XTAL2, C3 XTAL1, C5 ~{RESET} (in), H2 TD1
part C pins: A2 VDDA(1V8) (power), A11 VDD(3V3) (power), A12 VDD(1V8) (power), B1 VDD(3V3) (power), B4 VSSA(PLL) (power), B9 VDD(3V3) (power), B11 VSS (power), B13 VSS (power), C2 VSS (power), C4 VSSA (power), C13 VDD(3V3) (power), D7 VSS (power), D11 VSS (power), E4 VSS (power), F3 VDDA(3V3) (power), F12 VDD(3V3) (power), F13 VSS (power), J2 VSS (power), K3 VDD(3V3) (power), K10 VDD(3V3) (power), K12 VSS (power), L10 VSS (power), M3 VDD(3V3) (power), M6 VDD(3V3) (power), N1 VDD(1V8) (power), N2 VSS (power), N7 VSS (power), N8 VDD(3V3) (power)

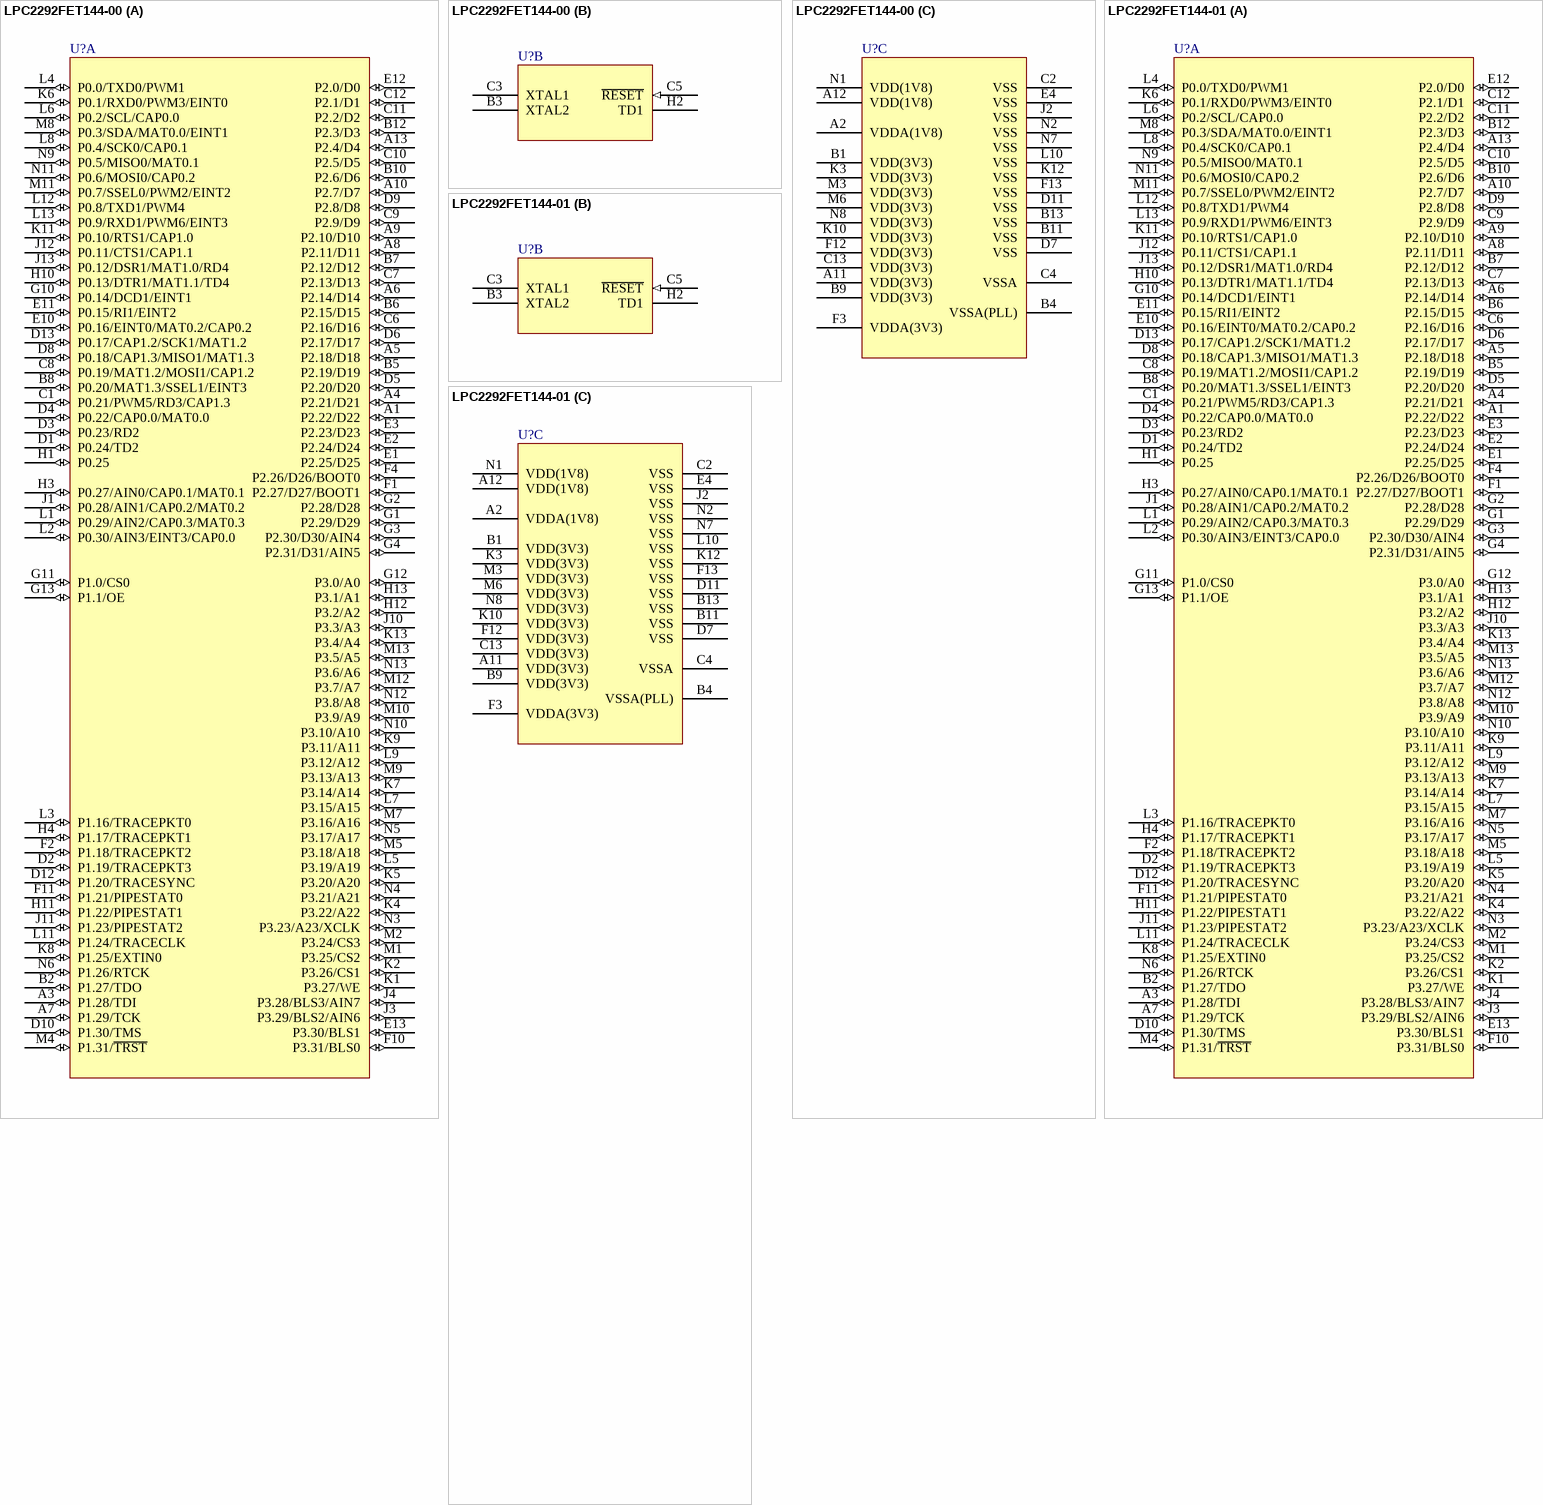
[diagram p19: symbols LPC2292FET144-00 to LPC2292FET144-01]

## LPC2292FET144-00
designator U?
ARM7 16/32-Bit Microcontroller, 256KB Flash, 16KB RAM, 2 Channel CAN, 144-Lead TFBGA; Published: 16-Oct-2006; DatasheetVersion: rev.06, Jul-2007; PackageVersion: Sep-2005; PackageReference: SOT569-1; Publisher: Altium Limited; PackageDescription: 144-Ball Plastic Thin Fine Pitch Ball Grid Array 0.8 mm Pitch; Code_JEDEC: MO-216; ComponentLink1Description: Manufacturer Link; ComponentLink1URL: http://www.nxp.com/; ComponentLink2Description: Datasheet; ComponentLink2URL: http://www.standardics.nxp.com/products/lpc2000/datasheet/lpc2292.lpc2294.pdf
footprint SOT569-1 (BGA, 144-Leads, Body 12x12mm, Pitch 0.8mm)
3D model LPC2292-BGA144 (144-Ball Plastic Thin Fine Pitch Ball Grid Array 0.8 mm Pitch)
part A pins: A1 P2.22/D22 (io), A3 P1.28/TDI (io), A4 P2.21/D21 (io), A5 P2.18/D18 (io), A6 P2.14/D14 (io), A7 P1.29/TCK (io), A8 P2.11/D11 (io), A9 P2.10/D10 (io), A10 P2.7/D7 (io), A13 P2.4/D4 (io), B2 P1.27/TDO (io), B5 P2.19/D19 (io), B6 P2.15/D15 (io), B7 P2.12/D12 (io), B8 P0.20/MAT1.3/SSEL1/EINT3 (io), B10 P2.6/D6 (io), B12 P2.3/D3 (io), C1 P0.21/PWM5/RD3/CAP1.3 (io), C6 P2.16/D16 (io), C7 P2.13/D13 (io), C8 P0.19/MAT1.2/MOSI1/CAP1.2 (io), C9 P2.9/D9 (io), C10 P2.5/D5 (io), C11 P2.2/D2 (io), C12 P2.1/D1 (io), D1 P0.24/TD2 (io), D2 P1.19/TRACEPKT3 (io), D3 P0.23/RD2 (io), D4 P0.22/CAP0.0/MAT0.0 (io), D5 P2.20/D20 (io), D6 P2.17/D17 (io), D8 P0.18/CAP1.3/MISO1/MAT1.3 (io), D9 P2.8/D8 (io), D10 P1.30/TMS (io), D12 P1.20/TRACESYNC (io), D13 P0.17/CAP1.2/SCK1/MAT1.2 (io), E1 P2.25/D25 (io), E2 P2.24/D24 (io), E3 P2.23/D23 (io), E10 P0.16/EINT0/MAT0.2/CAP0.2 (io), E11 P0.15/RI1/EINT2 (io), E12 P2.0/D0 (io), E13 P3.30/BLS1 (io), F1 P2.27/D27/BOOT1 (io), F2 P1.18/TRACEPKT2 (io), F4 P2.26/D26/BOOT0 (io), F10 P3.31/BLS0 (io), F11 P1.21/PIPESTAT0 (io), G1 P2.29/D29 (io), G2 P2.28/D28 (io), G3 P2.30/D30/AIN4 (io), G4 P2.31/D31/AIN5 (io), G10 P0.14/DCD1/EINT1 (io), G11 P1.0/CS0 (io), G12 P3.0/A0 (io), G13 P1.1/OE (io), H1 P0.25 (io), H3 P0.27/AIN0/CAP0.1/MAT0.1 (io), H4 P1.17/TRACEPKT1 (io), H10 P0.13/DTR1/MAT1.1/TD4 (io), H11 P1.22/PIPESTAT1 (io), H12 P3.2/A2 (io), H13 P3.1/A1 (io), J1 P0.28/AIN1/CAP0.2/MAT0.2 (io), J3 P3.29/BLS2/AIN6 (io), J4 P3.28/BLS3/AIN7 (io), J10 P3.3/A3 (io), J11 P1.23/PIPESTAT2 (io), J12 P0.11/CTS1/CAP1.1 (io), J13 P0.12/DSR1/MAT1.0/RD4 (io), K1 P3.27/WE (io), K2 P3.26/CS1 (io), K4 P3.22/A22 (io), K5 P3.20/A20 (io), K6 P0.1/RXD0/PWM3/EINT0 (io), K7 P3.14/A14 (io), K8 P1.25/EXTIN0 (io), K9 P3.11/A11 (io), K11 P0.10/RTS1/CAP1.0 (io), K13 P3.4/A4 (io), L1 P0.29/AIN2/CAP0.3/MAT0.3 (io), L2 P0.30/AIN3/EINT3/CAP0.0 (io), L3 P1.16/TRACEPKT0 (io), L4 P0.0/TXD0/PWM1 (io), L5 P3.19/A19 (io), L6 P0.2/SCL/CAP0.0 (io), L7 P3.15/A15 (io), L8 P0.4/SCK0/CAP0.1 (io), L9 P3.12/A12 (io), L11 P1.24/TRACECLK (io), L12 P0.8/TXD1/PWM4 (io), L13 P0.9/RXD1/PWM6/EINT3 (io), M1 P3.25/CS2 (io), M2 P3.24/CS3 (io), M4 P1.31/~{TRST} (io), M5 P3.18/A18 (io), M7 P3.16/A16 (io), M8 P0.3/SDA/MAT0.0/EINT1 (io), M9 P3.13/A13 (io), M10 P3.9/A9 (io), M11 P0.7/SSEL0/PWM2/EINT2 (io), M12 P3.7/A7 (io), M13 P3.5/A5 (io), N3 P3.23/A23/XCLK (io), N4 P3.21/A21 (io), N5 P3.17/A17 (io), N6 P1.26/RTCK (io), N9 P0.5/MISO0/MAT0.1 (io), N10 P3.10/A10 (io), N11 P0.6/MOSI0/CAP0.2 (io), N12 P3.8/A8 (io), N13 P3.6/A6 (io)
part B pins: B3 XTAL2, C3 XTAL1, C5 ~{RESET} (in), H2 TD1
part C pins: A2 VDDA(1V8) (power), A11 VDD(3V3) (power), A12 VDD(1V8) (power), B1 VDD(3V3) (power), B4 VSSA(PLL) (power), B9 VDD(3V3) (power), B11 VSS (power), B13 VSS (power), C2 VSS (power), C4 VSSA (power), C13 VDD(3V3) (power), D7 VSS (power), D11 VSS (power), E4 VSS (power), F3 VDDA(3V3) (power), F12 VDD(3V3) (power), F13 VSS (power), J2 VSS (power), K3 VDD(3V3) (power), K10 VDD(3V3) (power), K12 VSS (power), L10 VSS (power), M3 VDD(3V3) (power), M6 VDD(3V3) (power), N1 VDD(1V8) (power), N2 VSS (power), N7 VSS (power), N8 VDD(3V3) (power)

## LPC2292FET144-01
designator U?
ARM7 16/32-Bit Microcontroller, 256KB Flash, 16KB RAM, 2 Channel CAN, Fast GPIO/SSP/Enhanced UART, ADC, Timer, 144-Lead TFBGA; Published: 17-Aug-2007; DatasheetVersion: rev.06, Jul-2007; PackageVersion: Sep-2005; PackageReference: SOT569-1; Publisher: Altium Limited; PackageDescription: 144-Ball Plastic Thin Fine Pitch Ball Grid Array 0.8 mm Pitch; Code_JEDEC: MO-216; ComponentLink1Description: Manufacturer Link; ComponentLink1URL: http://www.nxp.com/; ComponentLink2Description: Datasheet; ComponentLink2URL: http://www.standardics.nxp.com/products/lpc2000/datasheet/lpc2292.lpc2294.pdf
footprint SOT569-1 (BGA, 144-Leads, Body 12x12mm, Pitch 0.8mm)
3D model LPC2292-BGA144 (144-Ball Plastic Thin Fine Pitch Ball Grid Array 0.8 mm Pitch)
part A pins: A1 P2.22/D22 (io), A3 P1.28/TDI (io), A4 P2.21/D21 (io), A5 P2.18/D18 (io), A6 P2.14/D14 (io), A7 P1.29/TCK (io), A8 P2.11/D11 (io), A9 P2.10/D10 (io), A10 P2.7/D7 (io), A13 P2.4/D4 (io), B2 P1.27/TDO (io), B5 P2.19/D19 (io), B6 P2.15/D15 (io), B7 P2.12/D12 (io), B8 P0.20/MAT1.3/SSEL1/EINT3 (io), B10 P2.6/D6 (io), B12 P2.3/D3 (io), C1 P0.21/PWM5/RD3/CAP1.3 (io), C6 P2.16/D16 (io), C7 P2.13/D13 (io), C8 P0.19/MAT1.2/MOSI1/CAP1.2 (io), C9 P2.9/D9 (io), C10 P2.5/D5 (io), C11 P2.2/D2 (io), C12 P2.1/D1 (io), D1 P0.24/TD2 (io), D2 P1.19/TRACEPKT3 (io), D3 P0.23/RD2 (io), D4 P0.22/CAP0.0/MAT0.0 (io), D5 P2.20/D20 (io), D6 P2.17/D17 (io), D8 P0.18/CAP1.3/MISO1/MAT1.3 (io), D9 P2.8/D8 (io), D10 P1.30/TMS (io), D12 P1.20/TRACESYNC (io), D13 P0.17/CAP1.2/SCK1/MAT1.2 (io), E1 P2.25/D25 (io), E2 P2.24/D24 (io), E3 P2.23/D23 (io), E10 P0.16/EINT0/MAT0.2/CAP0.2 (io), E11 P0.15/RI1/EINT2 (io), E12 P2.0/D0 (io), E13 P3.30/BLS1 (io), F1 P2.27/D27/BOOT1 (io), F2 P1.18/TRACEPKT2 (io), F4 P2.26/D26/BOOT0 (io), F10 P3.31/BLS0 (io), F11 P1.21/PIPESTAT0 (io), G1 P2.29/D29 (io), G2 P2.28/D28 (io), G3 P2.30/D30/AIN4 (io), G4 P2.31/D31/AIN5 (io), G10 P0.14/DCD1/EINT1 (io), G11 P1.0/CS0 (io), G12 P3.0/A0 (io), G13 P1.1/OE (io), H1 P0.25 (io), H3 P0.27/AIN0/CAP0.1/MAT0.1 (io), H4 P1.17/TRACEPKT1 (io), H10 P0.13/DTR1/MAT1.1/TD4 (io), H11 P1.22/PIPESTAT1 (io), H12 P3.2/A2 (io), H13 P3.1/A1 (io), J1 P0.28/AIN1/CAP0.2/MAT0.2 (io), J3 P3.29/BLS2/AIN6 (io), J4 P3.28/BLS3/AIN7 (io), J10 P3.3/A3 (io), J11 P1.23/PIPESTAT2 (io), J12 P0.11/CTS1/CAP1.1 (io), J13 P0.12/DSR1/MAT1.0/RD4 (io), K1 P3.27/WE (io), K2 P3.26/CS1 (io), K4 P3.22/A22 (io), K5 P3.20/A20 (io), K6 P0.1/RXD0/PWM3/EINT0 (io), K7 P3.14/A14 (io), K8 P1.25/EXTIN0 (io), K9 P3.11/A11 (io), K11 P0.10/RTS1/CAP1.0 (io), K13 P3.4/A4 (io), L1 P0.29/AIN2/CAP0.3/MAT0.3 (io), L2 P0.30/AIN3/EINT3/CAP0.0 (io), L3 P1.16/TRACEPKT0 (io), L4 P0.0/TXD0/PWM1 (io), L5 P3.19/A19 (io), L6 P0.2/SCL/CAP0.0 (io), L7 P3.15/A15 (io), L8 P0.4/SCK0/CAP0.1 (io), L9 P3.12/A12 (io), L11 P1.24/TRACECLK (io), L12 P0.8/TXD1/PWM4 (io), L13 P0.9/RXD1/PWM6/EINT3 (io), M1 P3.25/CS2 (io), M2 P3.24/CS3 (io), M4 P1.31/~{TRST} (io), M5 P3.18/A18 (io), M7 P3.16/A16 (io), M8 P0.3/SDA/MAT0.0/EINT1 (io), M9 P3.13/A13 (io), M10 P3.9/A9 (io), M11 P0.7/SSEL0/PWM2/EINT2 (io), M12 P3.7/A7 (io), M13 P3.5/A5 (io), N3 P3.23/A23/XCLK (io), N4 P3.21/A21 (io), N5 P3.17/A17 (io), N6 P1.26/RTCK (io), N9 P0.5/MISO0/MAT0.1 (io), N10 P3.10/A10 (io), N11 P0.6/MOSI0/CAP0.2 (io), N12 P3.8/A8 (io), N13 P3.6/A6 (io)
part B pins: B3 XTAL2, C3 XTAL1, C5 ~{RESET} (in), H2 TD1
part C pins: A2 VDDA(1V8) (power), A11 VDD(3V3) (power), A12 VDD(1V8) (power), B1 VDD(3V3) (power), B4 VSSA(PLL) (power), B9 VDD(3V3) (power), B11 VSS (power), B13 VSS (power), C2 VSS (power), C4 VSSA (power), C13 VDD(3V3) (power), D7 VSS (power), D11 VSS (power), E4 VSS (power), F3 VDDA(3V3) (power), F12 VDD(3V3) (power), F13 VSS (power), J2 VSS (power), K3 VDD(3V3) (power), K10 VDD(3V3) (power), K12 VSS (power), L10 VSS (power), M3 VDD(3V3) (power), M6 VDD(3V3) (power), N1 VDD(1V8) (power), N2 VSS (power), N7 VSS (power), N8 VDD(3V3) (power)

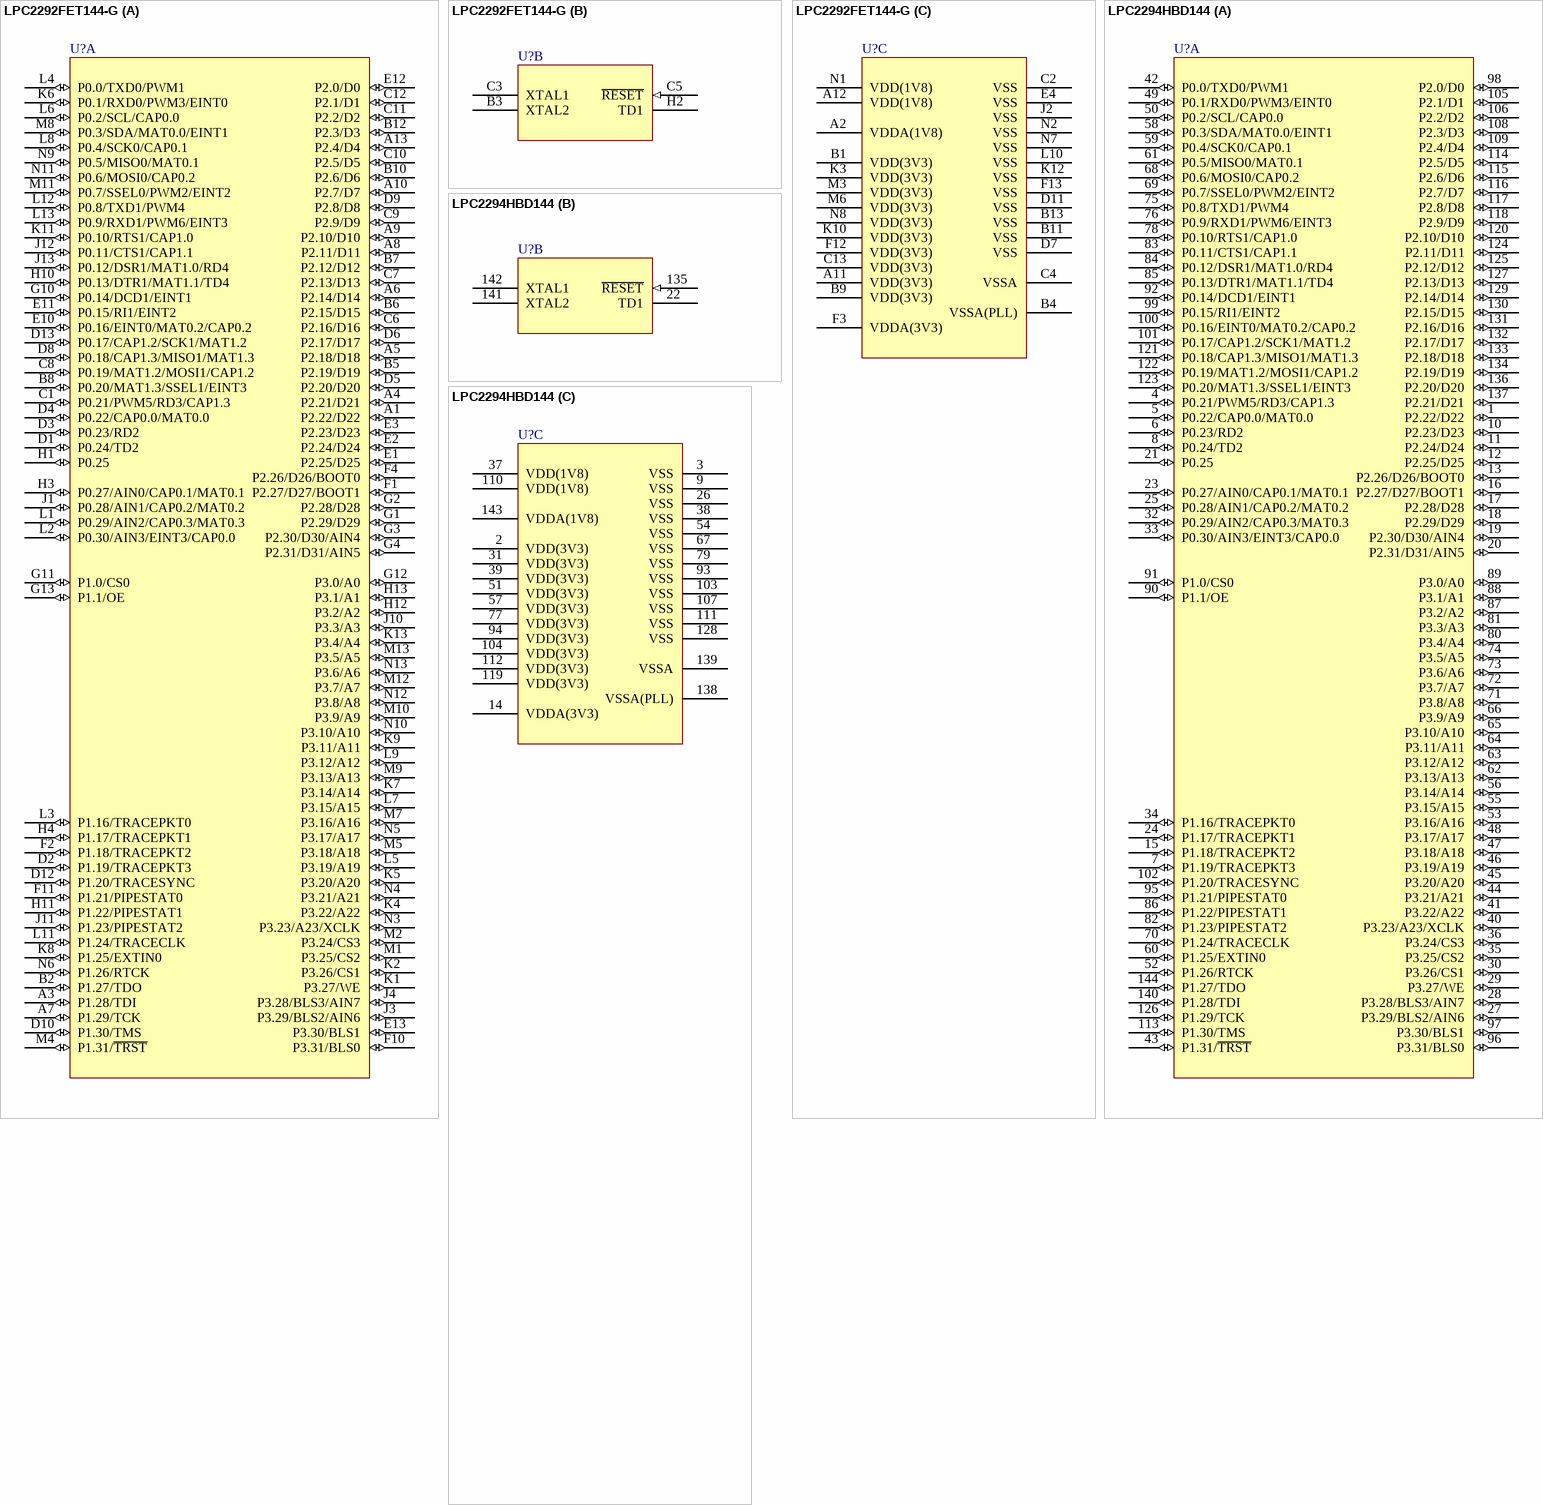
[diagram p20: symbols LPC2292FET144-G to LPC2294HBD144]

## LPC2292FET144-G
designator U?
ARM7 16/32-Bit Microcontroller, 256KB Flash, 16KB RAM, 2 Channel CAN, 144-Lead TFBGA; Published: 17-Aug-2007; DatasheetVersion: rev.06, Jul-2007; PackageVersion: Sep-2005; PackageReference: SOT569-1; Publisher: Altium Limited; PackageDescription: 144-Ball Plastic Thin Fine Pitch Ball Grid Array 0.8 mm Pitch; Code_JEDEC: MO-216; ComponentLink1Description: Manufacturer Link; ComponentLink1URL: http://www.nxp.com/; ComponentLink2Description: Datasheet; ComponentLink2URL: http://www.standardics.nxp.com/products/lpc2000/datasheet/lpc2292.lpc2294.pdf
footprint SOT569-1 (BGA, 144-Leads, Body 12x12mm, Pitch 0.8mm)
3D model LPC2292-BGA144 (144-Ball Plastic Thin Fine Pitch Ball Grid Array 0.8 mm Pitch)
part A pins: A1 P2.22/D22 (io), A3 P1.28/TDI (io), A4 P2.21/D21 (io), A5 P2.18/D18 (io), A6 P2.14/D14 (io), A7 P1.29/TCK (io), A8 P2.11/D11 (io), A9 P2.10/D10 (io), A10 P2.7/D7 (io), A13 P2.4/D4 (io), B2 P1.27/TDO (io), B5 P2.19/D19 (io), B6 P2.15/D15 (io), B7 P2.12/D12 (io), B8 P0.20/MAT1.3/SSEL1/EINT3 (io), B10 P2.6/D6 (io), B12 P2.3/D3 (io), C1 P0.21/PWM5/RD3/CAP1.3 (io), C6 P2.16/D16 (io), C7 P2.13/D13 (io), C8 P0.19/MAT1.2/MOSI1/CAP1.2 (io), C9 P2.9/D9 (io), C10 P2.5/D5 (io), C11 P2.2/D2 (io), C12 P2.1/D1 (io), D1 P0.24/TD2 (io), D2 P1.19/TRACEPKT3 (io), D3 P0.23/RD2 (io), D4 P0.22/CAP0.0/MAT0.0 (io), D5 P2.20/D20 (io), D6 P2.17/D17 (io), D8 P0.18/CAP1.3/MISO1/MAT1.3 (io), D9 P2.8/D8 (io), D10 P1.30/TMS (io), D12 P1.20/TRACESYNC (io), D13 P0.17/CAP1.2/SCK1/MAT1.2 (io), E1 P2.25/D25 (io), E2 P2.24/D24 (io), E3 P2.23/D23 (io), E10 P0.16/EINT0/MAT0.2/CAP0.2 (io), E11 P0.15/RI1/EINT2 (io), E12 P2.0/D0 (io), E13 P3.30/BLS1 (io), F1 P2.27/D27/BOOT1 (io), F2 P1.18/TRACEPKT2 (io), F4 P2.26/D26/BOOT0 (io), F10 P3.31/BLS0 (io), F11 P1.21/PIPESTAT0 (io), G1 P2.29/D29 (io), G2 P2.28/D28 (io), G3 P2.30/D30/AIN4 (io), G4 P2.31/D31/AIN5 (io), G10 P0.14/DCD1/EINT1 (io), G11 P1.0/CS0 (io), G12 P3.0/A0 (io), G13 P1.1/OE (io), H1 P0.25 (io), H3 P0.27/AIN0/CAP0.1/MAT0.1 (io), H4 P1.17/TRACEPKT1 (io), H10 P0.13/DTR1/MAT1.1/TD4 (io), H11 P1.22/PIPESTAT1 (io), H12 P3.2/A2 (io), H13 P3.1/A1 (io), J1 P0.28/AIN1/CAP0.2/MAT0.2 (io), J3 P3.29/BLS2/AIN6 (io), J4 P3.28/BLS3/AIN7 (io), J10 P3.3/A3 (io), J11 P1.23/PIPESTAT2 (io), J12 P0.11/CTS1/CAP1.1 (io), J13 P0.12/DSR1/MAT1.0/RD4 (io), K1 P3.27/WE (io), K2 P3.26/CS1 (io), K4 P3.22/A22 (io), K5 P3.20/A20 (io), K6 P0.1/RXD0/PWM3/EINT0 (io), K7 P3.14/A14 (io), K8 P1.25/EXTIN0 (io), K9 P3.11/A11 (io), K11 P0.10/RTS1/CAP1.0 (io), K13 P3.4/A4 (io), L1 P0.29/AIN2/CAP0.3/MAT0.3 (io), L2 P0.30/AIN3/EINT3/CAP0.0 (io), L3 P1.16/TRACEPKT0 (io), L4 P0.0/TXD0/PWM1 (io), L5 P3.19/A19 (io), L6 P0.2/SCL/CAP0.0 (io), L7 P3.15/A15 (io), L8 P0.4/SCK0/CAP0.1 (io), L9 P3.12/A12 (io), L11 P1.24/TRACECLK (io), L12 P0.8/TXD1/PWM4 (io), L13 P0.9/RXD1/PWM6/EINT3 (io), M1 P3.25/CS2 (io), M2 P3.24/CS3 (io), M4 P1.31/~{TRST} (io), M5 P3.18/A18 (io), M7 P3.16/A16 (io), M8 P0.3/SDA/MAT0.0/EINT1 (io), M9 P3.13/A13 (io), M10 P3.9/A9 (io), M11 P0.7/SSEL0/PWM2/EINT2 (io), M12 P3.7/A7 (io), M13 P3.5/A5 (io), N3 P3.23/A23/XCLK (io), N4 P3.21/A21 (io), N5 P3.17/A17 (io), N6 P1.26/RTCK (io), N9 P0.5/MISO0/MAT0.1 (io), N10 P3.10/A10 (io), N11 P0.6/MOSI0/CAP0.2 (io), N12 P3.8/A8 (io), N13 P3.6/A6 (io)
part B pins: B3 XTAL2, C3 XTAL1, C5 ~{RESET} (in), H2 TD1
part C pins: A2 VDDA(1V8) (power), A11 VDD(3V3) (power), A12 VDD(1V8) (power), B1 VDD(3V3) (power), B4 VSSA(PLL) (power), B9 VDD(3V3) (power), B11 VSS (power), B13 VSS (power), C2 VSS (power), C4 VSSA (power), C13 VDD(3V3) (power), D7 VSS (power), D11 VSS (power), E4 VSS (power), F3 VDDA(3V3) (power), F12 VDD(3V3) (power), F13 VSS (power), J2 VSS (power), K3 VDD(3V3) (power), K10 VDD(3V3) (power), K12 VSS (power), L10 VSS (power), M3 VDD(3V3) (power), M6 VDD(3V3) (power), N1 VDD(1V8) (power), N2 VSS (power), N7 VSS (power), N8 VDD(3V3) (power)

## LPC2294HBD144
designator U?
ARM7 16/32-Bit Microcontroller, 256KB Flash, 16KB RAM, 4 Channel CAN, 144-Lead LQFP; Code_IEC: 136E23; Published: 16-Oct-2006; DatasheetVersion: rev.06, Jul-2007; PackageVersion: Feb-2003; PackageReference: SOT486-1; Publisher: Altium Limited; PackageDescription: 144-Pin Plastic Low Profile Quad Flat Pack 0.5 mm Pitch; Code_JEDEC: MS-026; ComponentLink1Description: Manufacturer Link; ComponentLink1URL: http://www.nxp.com/; ComponentLink2Description: Datasheet; ComponentLink2URL: http://www.standardics.nxp.com/products/lpc2000/datasheet/lpc2292.lpc2294.pdf
footprint SOT486-1_N (Thin QFP, 144-Leads, Body 20x20mm, Pitch 0.5mm, IPC Medium Density)
footprint SOT486-1_L (Thin QFP, 144-Leads, Body 20x20mm, Pitch 0.5mm, IPC High Density)
footprint SOT486-1_M (Thin QFP, 144-Leads, Body 20x20mm, Pitch 0.5mm, IPC Low Density)
3D model LPC2294-QFP144 (144-Pin Plastic Low Profile Quad Flat Pack 0.5 mm Pitch)
part A pins: 1 P2.22/D22 (io), 4 P0.21/PWM5/RD3/CAP1.3 (io), 5 P0.22/CAP0.0/MAT0.0 (io), 6 P0.23/RD2 (io), 7 P1.19/TRACEPKT3 (io), 8 P0.24/TD2 (io), 10 P2.23/D23 (io), 11 P2.24/D24 (io), 12 P2.25/D25 (io), 13 P2.26/D26/BOOT0 (io), 15 P1.18/TRACEPKT2 (io), 16 P2.27/D27/BOOT1 (io), 17 P2.28/D28 (io), 18 P2.29/D29 (io), 19 P2.30/D30/AIN4 (io), 20 P2.31/D31/AIN5 (io), 21 P0.25 (io), 23 P0.27/AIN0/CAP0.1/MAT0.1 (io), 24 P1.17/TRACEPKT1 (io), 25 P0.28/AIN1/CAP0.2/MAT0.2 (io), 27 P3.29/BLS2/AIN6 (io), 28 P3.28/BLS3/AIN7 (io), 29 P3.27/WE (io), 30 P3.26/CS1 (io), 32 P0.29/AIN2/CAP0.3/MAT0.3 (io), 33 P0.30/AIN3/EINT3/CAP0.0 (io), 34 P1.16/TRACEPKT0 (io), 35 P3.25/CS2 (io), 36 P3.24/CS3 (io), 40 P3.23/A23/XCLK (io), 41 P3.22/A22 (io), 42 P0.0/TXD0/PWM1 (io), 43 P1.31/~{TRST} (io), 44 P3.21/A21 (io), 45 P3.20/A20 (io), 46 P3.19/A19 (io), 47 P3.18/A18 (io), 48 P3.17/A17 (io), 49 P0.1/RXD0/PWM3/EINT0 (io), 50 P0.2/SCL/CAP0.0 (io), 52 P1.26/RTCK (io), 53 P3.16/A16 (io), 55 P3.15/A15 (io), 56 P3.14/A14 (io), 58 P0.3/SDA/MAT0.0/EINT1 (io), 59 P0.4/SCK0/CAP0.1 (io), 60 P1.25/EXTIN0 (io), 61 P0.5/MISO0/MAT0.1 (io), 62 P3.13/A13 (io), 63 P3.12/A12 (io), 64 P3.11/A11 (io), 65 P3.10/A10 (io), 66 P3.9/A9 (io), 68 P0.6/MOSI0/CAP0.2 (io), 69 P0.7/SSEL0/PWM2/EINT2 (io), 70 P1.24/TRACECLK (io), 71 P3.8/A8 (io), 72 P3.7/A7 (io), 73 P3.6/A6 (io), 74 P3.5/A5 (io), 75 P0.8/TXD1/PWM4 (io), 76 P0.9/RXD1/PWM6/EINT3 (io), 78 P0.10/RTS1/CAP1.0 (io), 80 P3.4/A4 (io), 81 P3.3/A3 (io), 82 P1.23/PIPESTAT2 (io), 83 P0.11/CTS1/CAP1.1 (io), 84 P0.12/DSR1/MAT1.0/RD4 (io), 85 P0.13/DTR1/MAT1.1/TD4 (io), 86 P1.22/PIPESTAT1 (io), 87 P3.2/A2 (io), 88 P3.1/A1 (io), 89 P3.0/A0 (io), 90 P1.1/OE (io), 91 P1.0/CS0 (io), 92 P0.14/DCD1/EINT1 (io), 95 P1.21/PIPESTAT0 (io), 96 P3.31/BLS0 (io), 97 P3.30/BLS1 (io), 98 P2.0/D0 (io), 99 P0.15/RI1/EINT2 (io), 100 P0.16/EINT0/MAT0.2/CAP0.2 (io), 101 P0.17/CAP1.2/SCK1/MAT1.2 (io), 102 P1.20/TRACESYNC (io), 105 P2.1/D1 (io), 106 P2.2/D2 (io), 108 P2.3/D3 (io), 109 P2.4/D4 (io), 113 P1.30/TMS (io), 114 P2.5/D5 (io), 115 P2.6/D6 (io), 116 P2.7/D7 (io), 117 P2.8/D8 (io), 118 P2.9/D9 (io), 120 P2.10/D10 (io), 121 P0.18/CAP1.3/MISO1/MAT1.3 (io), 122 P0.19/MAT1.2/MOSI1/CAP1.2 (io), 123 P0.20/MAT1.3/SSEL1/EINT3 (io), 124 P2.11/D11 (io), 125 P2.12/D12 (io), 126 P1.29/TCK (io), 127 P2.13/D13 (io), 129 P2.14/D14 (io), 130 P2.15/D15 (io), 131 P2.16/D16 (io), 132 P2.17/D17 (io), 133 P2.18/D18 (io), 134 P2.19/D19 (io), 136 P2.20/D20 (io), 137 P2.21/D21 (io), 140 P1.28/TDI (io), 144 P1.27/TDO (io)
part B pins: 22 TD1, 135 ~{RESET} (in), 141 XTAL2, 142 XTAL1
part C pins: 2 VDD(3V3) (power), 3 VSS (power), 9 VSS (power), 14 VDDA(3V3) (power), 26 VSS (power), 31 VDD(3V3) (power), 37 VDD(1V8) (power), 38 VSS (power), 39 VDD(3V3) (power), 51 VDD(3V3) (power), 54 VSS (power), 57 VDD(3V3) (power), 67 VSS (power), 77 VDD(3V3) (power), 79 VSS (power), 93 VSS (power), 94 VDD(3V3) (power), 103 VSS (power), 104 VDD(3V3) (power), 107 VSS (power), 110 VDD(1V8) (power), 111 VSS (power), 112 VDD(3V3) (power), 119 VDD(3V3) (power), 128 VSS (power), 138 VSSA(PLL) (power), 139 VSSA (power), 143 VDDA(1V8) (power)

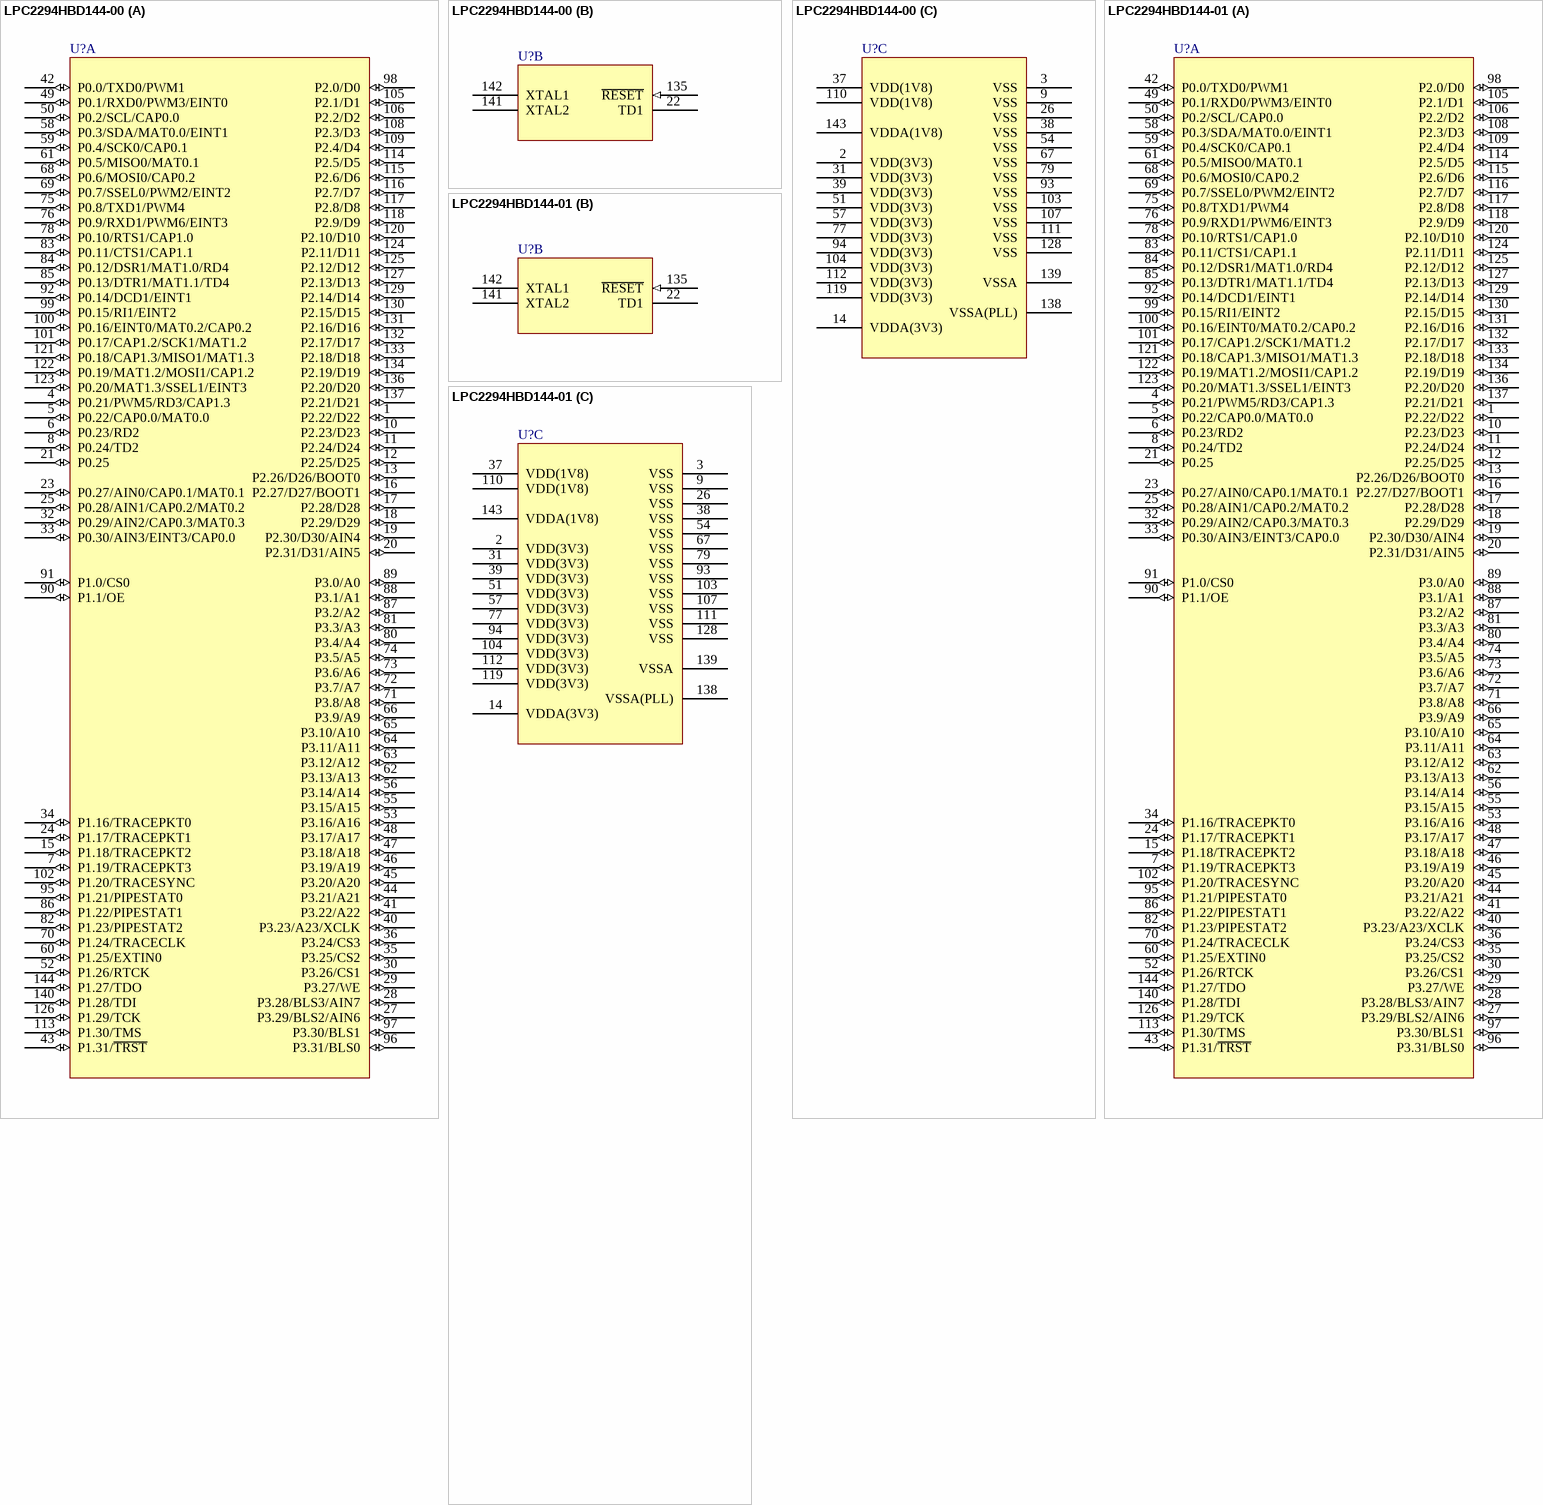
[diagram p21: symbols LPC2294HBD144-00 to LPC2294HBD144-01]